# Altium integrated library Altium Database Library V2.IntLib: 721 symbols (part 17 of 35)
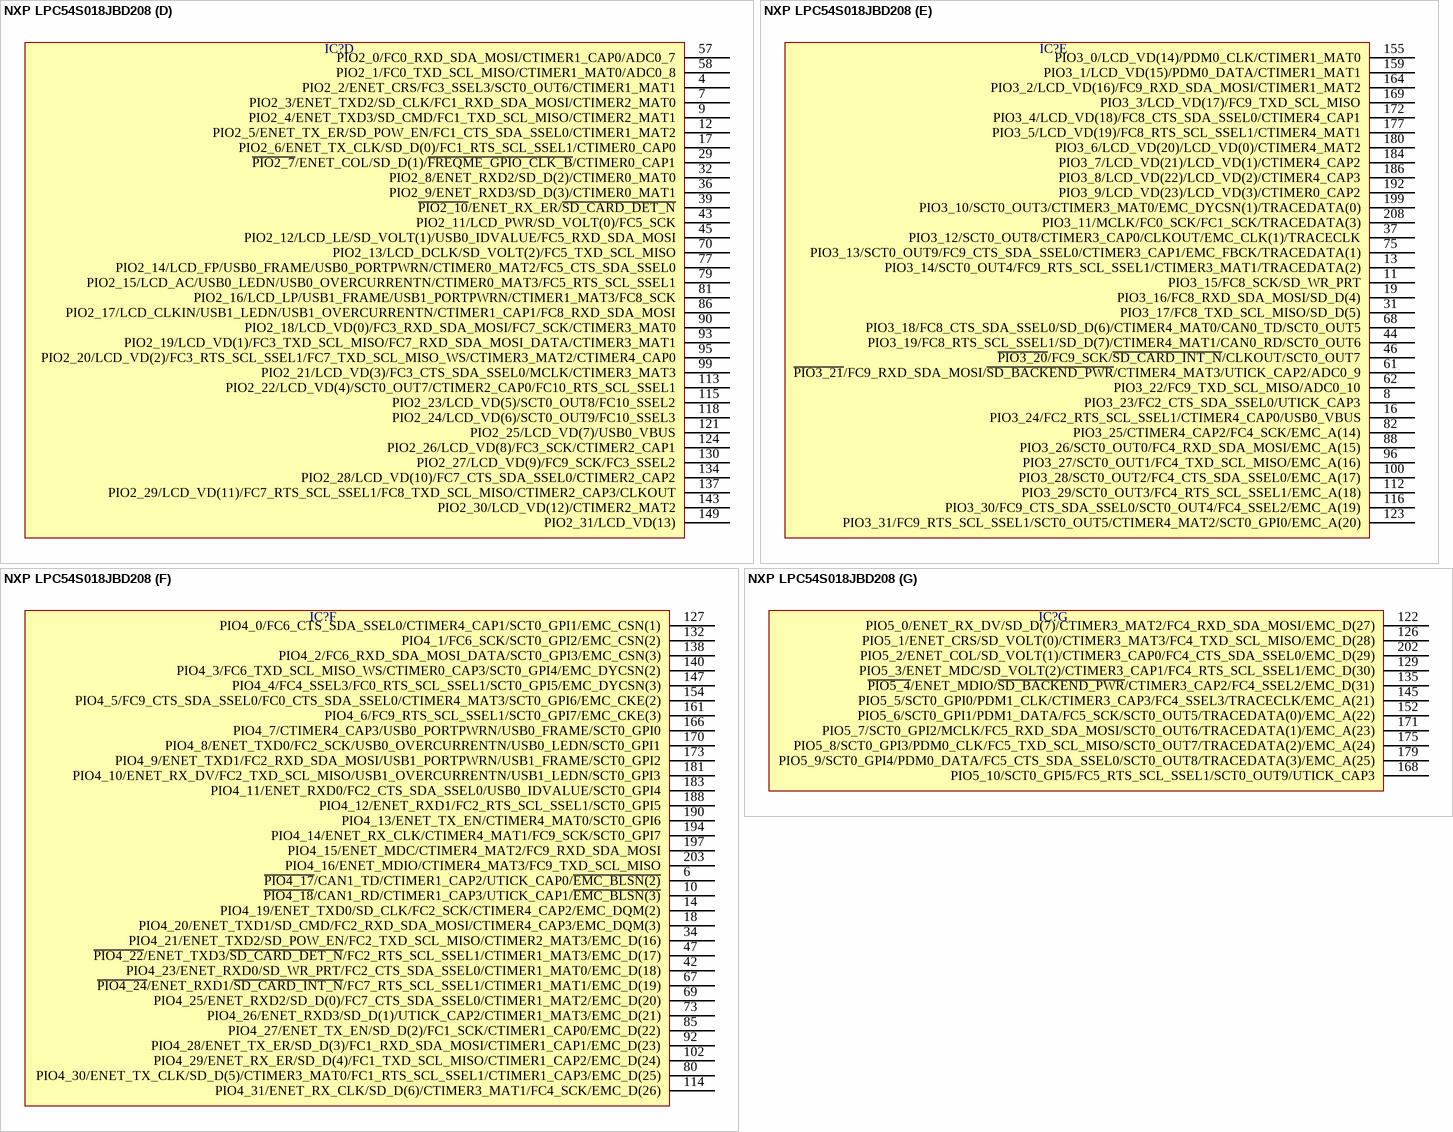
[diagram p730: symbol NXP LPC54S018JBD208]

## NXP LPC54S018JBD208
designator IC?  (value not drawn)
part A pins: 1 VDD1, 2 VSS2, 20 USB1_AVSSC, 21 USB1_REXT, 22 USB1_IDVALUE, 23 USB1_VBUS, 24 USB1_AVDDC3V324, 25 USB1_AVDDTX3V3, 26 USB1_DM, 27 USB1_DP, 28 USB1_AVSSTX3V3, 40 XTAL2, 41 XTAL1, 48 VDD48, 49 VSS49, 59 VREFN, 60 VSSA, 63 VREFP, 64 VDDA, 65 VDD65, 66 VSS66, 94 VBAT94, 101 RESET, 103 VSS103, 104 VDD104, 105 RTCXIN, 106 RTCXOUT, 107 VSS107, 108 VDD108, 148 VSS148, 156 VDD156, 157 VDD157, 162 VSS162, 201 VSS201, 204 USB0_DP, 205 USB0_DM, 206 VDD206
part B pins: 50 PIO0_10/FC6_SCK/CTIMER2_CAP2/CTIMER2_MAT0/FC1_TXD_SCL_MISO/SWO/ADC0_0, 51 PIO0_11/FC6_RXD_SDA_MOSI_DATA/CTIMER2_MAT2/FREQME_GPIO_CLK_A/SWCLK/ADC0_1, 52 ~{PIO0_12}/FC3_TXD_SCL_MISO/~{FREQME_GPIO_CLK_B}/SCT0_GPI7/SWDIO/ADC0_2, 53 PIO0_15/FC6_CTS_SDA_SSEL0/UTICK_CAP2/CTIMER4_CAP0/SCT0_OUT2/EMC_WEN/ENET_TX_EN/ADC0_3, 54 PIO0_16/FC4_TXD_SCL_MISO/CLKOUT/CTIMER1_CAP0/EMC_CSN(0)/ENET_TXD0/ADC0_4, 55 PIO0_31/FC0_CTS_SDA_SSEL0/SD_D(2)/CTIMER0_MAT1/SCT0_OUT3/TRACEDATA(0)/ADC0_5, 71 PIO0_23/MCLK/CTIMER1_MAT2/CTIMER3_MAT3/SCT0_OUT4/FC0_CTS_SDA_SSEL0/SPIFI_CSN/ADC0_11, 76 PIO0_24/FC0_RXD_SDA_MOSI/SD_D(0)/CTIMER2_CAP0/SCT0_GPI0/SPIFI_IO(0), 83 PIO0_25/FC0_TXD_SCL_MISO/SD_D(1)/CTIMER2_CAP1/SCT0_GPI1/SPIFI_IO(1), 87 PIO0_27/FC2_TXD_SCL_MISO/CTIMER3_MAT2/SCT0_OUT6/PDM0_DATA/SPIFI_IO(3), 91 PIO0_28/FC0_SCK/CTIMER2_CAP3/SCT0_OUT7/TRACEDATA(3)/SPIFI_IO(2)/USB0_OVERCURRENTN, 110 PIO0_26/FC2_RXD_SDA_MOSI/CLKOUT/CTIMER3_CAP2/SCT0_OUT5/PDM0_CLK/SPIFI_CLK/USB0_IDVALUE/FC10_CTS_SDA_SSEL0, 125 PIO0_7/FC3_RTS_SCL_SSEL1/SD_CLK/FC5_SCK/FC1_SCK/PDM1_CLK/EMC_D(5)/ENET_RX_CLK, 133 PIO0_8/FC3_SSEL3/SD_CMD/FC5_RXD_SDA_MOSI/SWO/PDM1_DATA/EMC_D(6), 136 PIO0_9/FC3_SSEL2/SD_POW_EN/FC5_TXD_SCL_MISO/SCI1_IO/EMC_D(7), 141 PIO0_13/FC1_CTS_SDA_SSEL0/UTICK_CAP0/CTIMER0_CAP0/SCT0_GPI0/ENET_RXD0, 144 PIO0_14/FC1_RTS_SCL_SSEL1/UTICK_CAP1/CTIMER0_CAP1/SCT0_GPI1/ENET_RXD1, 146 ~{PIO0_17}/FC4_SSEL2/~{SD_CARD_DET_N}/SCT0_GPI7/SCT0_OUT0/EMC_OEN/ENET_TXD1, 150 PIO0_18/FC4_CTS_SDA_SSEL0/SD_WR_PRT/CTIMER1_MAT0/SCT0_OUT1/SCI1_SCLK/EMC_A(0), 153 PIO0_20/FC3_CTS_SDA_SSEL0/CTIMER1_MAT1/CTIMER3_CAP3/SCT0_GPI2/SCI0_IO/EMC_A(2)/FC7_RXD_SDA_MOSI_DATA, 158 PIO0_21/FC3_RTS_SCL_SSEL1/UTICK_CAP3/CTIMER3_MAT3/SCT0_GPI3/SCI0_SCLK/EMC_A(3)/FC7_SCK, 163 PIO0_22/FC6_TXD_SCL_MISO_WS/UTICK_CAP1/CTIMER3_CAP3/SCT0_OUT3/USB0_VBUS, 167 PIO0_29/FC0_RXD_SDA_MOSI/CTIMER2_MAT3/SCT0_OUT8/TRACEDATA(2), 174 PIO0_2/FC3_TXD_SCL_MISO/CTIMER0_CAP1/SCT0_OUT0/SCT0_GPI2/EMC_D(0), 178 PIO0_3/FC3_RXD_SDA_MOSI/CTIMER0_MAT1/SCT0_OUT1/SCT0_GPI3/EMC_D(1), 185 PIO0_4/CAN0_RD/FC4_SCK/CTIMER3_CAP0/SCT0_GPI4/EMC_D(2)/ENET_MDC, 189 PIO0_5/CAN0_TD/FC4_RXD_SDA_MOSI/CTIMER3_MAT0/SCT0_GPI5/EMC_D(3)/ENET_MDIO, 191 PIO0_6/FC3_SCK/CTIMER3_CAP1/CTIMER4_MAT0/SCT0_GPI6/EMC_D(4)/ENET_RX_DV, 193 PIO0_19/FC4_RTS_SCL_SSEL1/UTICK_CAP0/CTIMER0_MAT2/SCT0_OUT2/EMC_A(1)/FC7_TXD_SCL_MISO_WS, 196 PIO0_0/CAN1_RD/FC3_SCK/CTIMER0_MAT0/SCT0_GPI0/PDM0_CLK, 200 PIO0_30/FC0_TXD_SCL_MISO/CTIMER0_MAT0/SCT0_OUT9/TRACEDATA(1), 207 PIO0_1/CAN1_TD/FC3_CTS_SDA_SSEL0/CTIMER0_CAP0/SCT0_GPI1/PDM0_DATA
part C pins: 3 PIO1_4/FC0_SCK/SD_D(0)/CTIMER2_MAT1/SCT0_OUT0/FREQME_GPIO_CLK_A/EMC_D(11), 5 PIO1_5/FC0_RXD_SDA_MOSI/SD_D(2)/CTIMER2_MAT0/SCT0_GPI0/EMC_A(4), 15 ~{PIO1_18}/FC8_TXD_SCL_MISO/SCT0_OUT5/CAN1_RD/~{EMC_BLSN(1)}, 30 PIO1_6/FC0_TXD_SCL_MISO/SD_D(3)/CTIMER2_MAT1/SCT0_GPI3/EMC_A(5), 33 PIO1_19/FC8_SCK/SCT0_OUT7/CTIMER3_MAT1/SCT0_GPI7/FC4_SCK/EMC_D(8), 35 PIO1_20/FC7_RTS_SCL_SSEL1/CTIMER3_CAP2/FC4_TXD_SCL_MISO/EMC_D(9), 38 PIO1_7/FC0_RTS_SCL_SSEL1/SD_D(1)/CTIMER2_MAT2/SCT0_GPI4/EMC_A(6), 56 PIO1_0/FC0_RTS_SCL_SSEL1/SD_D(3)/CTIMER0_CAP2/SCT0_GPI4/TRACECLK/ADC0_6, 72 PIO1_8/FC0_CTS_SDA_SSEL0/SD_CLK/SCT0_OUT1/FC4_SSEL2/EMC_A(7), 74 PIO1_21/FC7_CTS_SDA_SSEL0/CTIMER3_MAT2/FC4_RXD_SDA_MOSI/EMC_D(10), 78 PIO1_9/ENET_TXD0/FC1_SCK/CTIMER1_CAP0/SCT0_OUT2/FC4_CTS_SDA_SSEL0/EMC_CASN, 84 PIO1_10/ENET_TXD1/FC1_RXD_SDA_MOSI/CTIMER1_MAT0/SCT0_OUT3/EMC_RASN, 89 PIO1_22/FC8_RTS_SCL_SSEL1/SD_CMD/CTIMER2_MAT3/SCT0_GPI5/FC4_SSEL3/EMC_CKE(1), 97 PIO1_23/FC2_SCK/SCT0_OUT0/ENET_MDIO/FC3_SSEL2/EMC_A(11), 98 ~{PIO1_17}/ENET_MDIO/FC8_RXD_SDA_MOSI/SCT0_OUT4/CAN1_TD/~{EMC_BLSN(0)}, 109 PIO1_1/FC3_RXD_SDA_MOSI/CTIMER0_CAP3/SCT0_GPI5/FC10_RXD_SDA_MOSI/USB1_OVERCURRENTN, 111 PIO1_24/FC2_RXD_SDA_MOSI/SCT0_OUT1/FC3_SSEL3/EMC_A(12), 117 PIO1_2/CAN0_TD/CTIMER0_MAT3/SCT0_GPI6/PDM1_CLK/FC10_TXD_SCL_MISO/USB1_PORTPWRN, 119 PIO1_25/FC2_TXD_SCL_MISO/SCT0_OUT2/UTICK_CAP0/EMC_A(13), 120 PIO1_3/CAN0_RD/SCT0_OUT4/PDM1_DATA/USB0_PORTPWRN/FC10_SCK, 128 PIO1_12/ENET_RXD0/FC6_SCK/CTIMER1_MAT1/USB0_PORTPWRN/EMC_DYCSN(0), 131 PIO1_26/FC2_CTS_SDA_SSEL0/SCT0_OUT3/CTIMER0_CAP3/UTICK_CAP1/EMC_A(8), 139 PIO1_13/ENET_RXD1/FC6_RXD_SDA_MOSI_DATA/CTIMER1_CAP2/USB0_OVERCURRENTN/USB0_FRAME/EMC_DQM(0), 142 PIO1_27/FC2_RTS_SCL_SSEL1/SD_D(4)/CTIMER0_MAT3/CLKOUT/EMC_A(9), 151 PIO1_28/FC7_SCK/SD_D(5)/CTIMER0_CAP2/EMC_D(12), 160 PIO1_14/ENET_RX_DV/UTICK_CAP2/CTIMER1_MAT2/FC5_CTS_SDA_SSEL0/USB0_LEDN/EMC_DQM(1), 165 PIO1_29/FC7_RXD_SDA_MOSI_DATA/SD_D(6)/SCT0_GPI6/USB1_PORTPWRN/USB1_FRAME/EMC_D(13), 176 PIO1_15/ENET_RX_CLK/UTICK_CAP3/CTIMER1_CAP3/FC5_RTS_SCL_SSEL1/FC4_RTS_SCL_SSEL1/EMC_CKE(0), 182 PIO1_30/FC7_TXD_SCL_MISO_WS/SD_D(7)/SCT0_GPI7/USB1_OVERCURRENTN/USB1_LEDN/EMC_D(14), 187 PIO1_16/ENET_MDC/FC6_TXD_SCL_MISO_WS/CTIMER1_MAT3/SD_CMD/EMC_A(10), 195 PIO1_31/MCLK/CTIMER0_MAT2/SCT0_OUT6/FC8_CTS_SDA_SSEL0/EMC_D(15), 198 PIO1_11/ENET_TX_EN/FC1_TXD_SCL_MISO/CTIMER1_CAP1/USB0_VBUS/EMC_CLK(0)
part D pins: 4 PIO2_2/ENET_CRS/FC3_SSEL3/SCT0_OUT6/CTIMER1_MAT1, 7 PIO2_3/ENET_TXD2/SD_CLK/FC1_RXD_SDA_MOSI/CTIMER2_MAT0, 9 PIO2_4/ENET_TXD3/SD_CMD/FC1_TXD_SCL_MISO/CTIMER2_MAT1, 12 PIO2_5/ENET_TX_ER/SD_POW_EN/FC1_CTS_SDA_SSEL0/CTIMER1_MAT2, 17 PIO2_6/ENET_TX_CLK/SD_D(0)/FC1_RTS_SCL_SSEL1/CTIMER0_CAP0, 29 ~{PIO2_7}/ENET_COL/SD_D(1)/~{FREQME_GPIO_CLK_B}/CTIMER0_CAP1, 32 PIO2_8/ENET_RXD2/SD_D(2)/CTIMER0_MAT0, 36 PIO2_9/ENET_RXD3/SD_D(3)/CTIMER0_MAT1, 39 ~{PIO2_10}/ENET_RX_ER/~{SD_CARD_DET_N}, 43 PIO2_11/LCD_PWR/SD_VOLT(0)/FC5_SCK, 45 PIO2_12/LCD_LE/SD_VOLT(1)/USB0_IDVALUE/FC5_RXD_SDA_MOSI, 57 PIO2_0/FC0_RXD_SDA_MOSI/CTIMER1_CAP0/ADC0_7, 58 PIO2_1/FC0_TXD_SCL_MISO/CTIMER1_MAT0/ADC0_8, 70 PIO2_13/LCD_DCLK/SD_VOLT(2)/FC5_TXD_SCL_MISO, 77 PIO2_14/LCD_FP/USB0_FRAME/USB0_PORTPWRN/CTIMER0_MAT2/FC5_CTS_SDA_SSEL0, 79 PIO2_15/LCD_AC/USB0_LEDN/USB0_OVERCURRENTN/CTIMER0_MAT3/FC5_RTS_SCL_SSEL1, 81 PIO2_16/LCD_LP/USB1_FRAME/USB1_PORTPWRN/CTIMER1_MAT3/FC8_SCK, 86 PIO2_17/LCD_CLKIN/USB1_LEDN/USB1_OVERCURRENTN/CTIMER1_CAP1/FC8_RXD_SDA_MOSI, 90 PIO2_18/LCD_VD(0)/FC3_RXD_SDA_MOSI/FC7_SCK/CTIMER3_MAT0, 93 PIO2_19/LCD_VD(1)/FC3_TXD_SCL_MISO/FC7_RXD_SDA_MOSI_DATA/CTIMER3_MAT1, 95 PIO2_20/LCD_VD(2)/FC3_RTS_SCL_SSEL1/FC7_TXD_SCL_MISO_WS/CTIMER3_MAT2/CTIMER4_CAP0, 99 PIO2_21/LCD_VD(3)/FC3_CTS_SDA_SSEL0/MCLK/CTIMER3_MAT3, 113 PIO2_22/LCD_VD(4)/SCT0_OUT7/CTIMER2_CAP0/FC10_RTS_SCL_SSEL1, 115 PIO2_23/LCD_VD(5)/SCT0_OUT8/FC10_SSEL2, 118 PIO2_24/LCD_VD(6)/SCT0_OUT9/FC10_SSEL3, 121 PIO2_25/LCD_VD(7)/USB0_VBUS, 124 PIO2_26/LCD_VD(8)/FC3_SCK/CTIMER2_CAP1, 130 PIO2_27/LCD_VD(9)/FC9_SCK/FC3_SSEL2, 134 PIO2_28/LCD_VD(10)/FC7_CTS_SDA_SSEL0/CTIMER2_CAP2, 137 PIO2_29/LCD_VD(11)/FC7_RTS_SCL_SSEL1/FC8_TXD_SCL_MISO/CTIMER2_CAP3/CLKOUT, 143 PIO2_30/LCD_VD(12)/CTIMER2_MAT2, 149 PIO2_31/LCD_VD(13)
part E pins: 8 PIO3_23/FC2_CTS_SDA_SSEL0/UTICK_CAP3, 11 PIO3_15/FC8_SCK/SD_WR_PRT, 13 PIO3_14/SCT0_OUT4/FC9_RTS_SCL_SSEL1/CTIMER3_MAT1/TRACEDATA(2), 16 PIO3_24/FC2_RTS_SCL_SSEL1/CTIMER4_CAP0/USB0_VBUS, 19 PIO3_16/FC8_RXD_SDA_MOSI/SD_D(4), 31 PIO3_17/FC8_TXD_SCL_MISO/SD_D(5), 37 PIO3_12/SCT0_OUT8/CTIMER3_CAP0/CLKOUT/EMC_CLK(1)/TRACECLK, 44 PIO3_19/FC8_RTS_SCL_SSEL1/SD_D(7)/CTIMER4_MAT1/CAN0_RD/SCT0_OUT6, 46 ~{PIO3_20}/FC9_SCK/~{SD_CARD_INT_N}/CLKOUT/SCT0_OUT7, 61 ~{PIO3_21}/FC9_RXD_SDA_MOSI/~{SD_BACKEND_PWR}/CTIMER4_MAT3/UTICK_CAP2/ADC0_9, 62 PIO3_22/FC9_TXD_SCL_MISO/ADC0_10, 68 PIO3_18/FC8_CTS_SDA_SSEL0/SD_D(6)/CTIMER4_MAT0/CAN0_TD/SCT0_OUT5, 75 PIO3_13/SCT0_OUT9/FC9_CTS_SDA_SSEL0/CTIMER3_CAP1/EMC_FBCK/TRACEDATA(1), 82 PIO3_25/CTIMER4_CAP2/FC4_SCK/EMC_A(14), 88 PIO3_26/SCT0_OUT0/FC4_RXD_SDA_MOSI/EMC_A(15), 96 PIO3_27/SCT0_OUT1/FC4_TXD_SCL_MISO/EMC_A(16), 100 PIO3_28/SCT0_OUT2/FC4_CTS_SDA_SSEL0/EMC_A(17), 112 PIO3_29/SCT0_OUT3/FC4_RTS_SCL_SSEL1/EMC_A(18), 116 PIO3_30/FC9_CTS_SDA_SSEL0/SCT0_OUT4/FC4_SSEL2/EMC_A(19), 123 PIO3_31/FC9_RTS_SCL_SSEL1/SCT0_OUT5/CTIMER4_MAT2/SCT0_GPI0/EMC_A(20), 155 PIO3_0/LCD_VD(14)/PDM0_CLK/CTIMER1_MAT0, 159 PIO3_1/LCD_VD(15)/PDM0_DATA/CTIMER1_MAT1, 164 PIO3_2/LCD_VD(16)/FC9_RXD_SDA_MOSI/CTIMER1_MAT2, 169 PIO3_3/LCD_VD(17)/FC9_TXD_SCL_MISO, 172 PIO3_4/LCD_VD(18)/FC8_CTS_SDA_SSEL0/CTIMER4_CAP1, 177 PIO3_5/LCD_VD(19)/FC8_RTS_SCL_SSEL1/CTIMER4_MAT1, 180 PIO3_6/LCD_VD(20)/LCD_VD(0)/CTIMER4_MAT2, 184 PIO3_7/LCD_VD(21)/LCD_VD(1)/CTIMER4_CAP2, 186 PIO3_8/LCD_VD(22)/LCD_VD(2)/CTIMER4_CAP3, 192 PIO3_9/LCD_VD(23)/LCD_VD(3)/CTIMER0_CAP2, 199 PIO3_10/SCT0_OUT3/CTIMER3_MAT0/EMC_DYCSN(1)/TRACEDATA(0), 208 PIO3_11/MCLK/FC0_SCK/FC1_SCK/TRACEDATA(3)
part F pins: 6 ~{PIO4_17}/CAN1_TD/CTIMER1_CAP2/UTICK_CAP0/~{EMC_BLSN(2)}, 10 ~{PIO4_18}/CAN1_RD/CTIMER1_CAP3/UTICK_CAP1/~{EMC_BLSN(3)}, 14 PIO4_19/ENET_TXD0/SD_CLK/FC2_SCK/CTIMER4_CAP2/EMC_DQM(2), 18 PIO4_20/ENET_TXD1/SD_CMD/FC2_RXD_SDA_MOSI/CTIMER4_CAP3/EMC_DQM(3), 34 PIO4_21/ENET_TXD2/SD_POW_EN/FC2_TXD_SCL_MISO/CTIMER2_MAT3/EMC_D(16), 42 PIO4_23/ENET_RXD0/SD_WR_PRT/FC2_CTS_SDA_SSEL0/CTIMER1_MAT0/EMC_D(18), 47 ~{PIO4_22}/ENET_TXD3/~{SD_CARD_DET_N}/FC2_RTS_SCL_SSEL1/CTIMER1_MAT3/EMC_D(17), 67 ~{PIO4_24}/ENET_RXD1/~{SD_CARD_INT_N}/FC7_RTS_SCL_SSEL1/CTIMER1_MAT1/EMC_D(19), 69 PIO4_25/ENET_RXD2/SD_D(0)/FC7_CTS_SDA_SSEL0/CTIMER1_MAT2/EMC_D(20), 73 PIO4_26/ENET_RXD3/SD_D(1)/UTICK_CAP2/CTIMER1_MAT3/EMC_D(21), 80 PIO4_30/ENET_TX_CLK/SD_D(5)/CTIMER3_MAT0/FC1_RTS_SCL_SSEL1/CTIMER1_CAP3/EMC_D(25), 85 PIO4_27/ENET_TX_EN/SD_D(2)/FC1_SCK/CTIMER1_CAP0/EMC_D(22), 92 PIO4_28/ENET_TX_ER/SD_D(3)/FC1_RXD_SDA_MOSI/CTIMER1_CAP1/EMC_D(23), 102 PIO4_29/ENET_RX_ER/SD_D(4)/FC1_TXD_SCL_MISO/CTIMER1_CAP2/EMC_D(24), 114 PIO4_31/ENET_RX_CLK/SD_D(6)/CTIMER3_MAT1/FC4_SCK/EMC_D(26), 127 PIO4_0/FC6_CTS_SDA_SSEL0/CTIMER4_CAP1/SCT0_GPI1/EMC_CSN(1), 132 PIO4_1/FC6_SCK/SCT0_GPI2/EMC_CSN(2), 138 PIO4_2/FC6_RXD_SDA_MOSI_DATA/SCT0_GPI3/EMC_CSN(3), 140 PIO4_3/FC6_TXD_SCL_MISO_WS/CTIMER0_CAP3/SCT0_GPI4/EMC_DYCSN(2), 147 PIO4_4/FC4_SSEL3/FC0_RTS_SCL_SSEL1/SCT0_GPI5/EMC_DYCSN(3), 154 PIO4_5/FC9_CTS_SDA_SSEL0/FC0_CTS_SDA_SSEL0/CTIMER4_MAT3/SCT0_GPI6/EMC_CKE(2), 161 PIO4_6/FC9_RTS_SCL_SSEL1/SCT0_GPI7/EMC_CKE(3), 166 PIO4_7/CTIMER4_CAP3/USB0_PORTPWRN/USB0_FRAME/SCT0_GPI0, 170 PIO4_8/ENET_TXD0/FC2_SCK/USB0_OVERCURRENTN/USB0_LEDN/SCT0_GPI1, 173 PIO4_9/ENET_TXD1/FC2_RXD_SDA_MOSI/USB1_PORTPWRN/USB1_FRAME/SCT0_GPI2, 181 PIO4_10/ENET_RX_DV/FC2_TXD_SCL_MISO/USB1_OVERCURRENTN/USB1_LEDN/SCT0_GPI3, 183 PIO4_11/ENET_RXD0/FC2_CTS_SDA_SSEL0/USB0_IDVALUE/SCT0_GPI4, 188 PIO4_12/ENET_RXD1/FC2_RTS_SCL_SSEL1/SCT0_GPI5, 190 PIO4_13/ENET_TX_EN/CTIMER4_MAT0/SCT0_GPI6, 194 PIO4_14/ENET_RX_CLK/CTIMER4_MAT1/FC9_SCK/SCT0_GPI7, 197 PIO4_15/ENET_MDC/CTIMER4_MAT2/FC9_RXD_SDA_MOSI, 203 PIO4_16/ENET_MDIO/CTIMER4_MAT3/FC9_TXD_SCL_MISO
part G pins: 122 PIO5_0/ENET_RX_DV/SD_D(7)/CTIMER3_MAT2/FC4_RXD_SDA_MOSI/EMC_D(27), 126 PIO5_1/ENET_CRS/SD_VOLT(0)/CTIMER3_MAT3/FC4_TXD_SCL_MISO/EMC_D(28), 129 PIO5_3/ENET_MDC/SD_VOLT(2)/CTIMER3_CAP1/FC4_RTS_SCL_SSEL1/EMC_D(30), 135 ~{PIO5_4}/ENET_MDIO/~{SD_BACKEND_PWR}/CTIMER3_CAP2/FC4_SSEL2/EMC_D(31), 145 PIO5_5/SCT0_GPI0/PDM1_CLK/CTIMER3_CAP3/FC4_SSEL3/TRACECLK/EMC_A(21), 152 PIO5_6/SCT0_GPI1/PDM1_DATA/FC5_SCK/SCT0_OUT5/TRACEDATA(0)/EMC_A(22), 168 PIO5_10/SCT0_GPI5/FC5_RTS_SCL_SSEL1/SCT0_OUT9/UTICK_CAP3, 171 PIO5_7/SCT0_GPI2/MCLK/FC5_RXD_SDA_MOSI/SCT0_OUT6/TRACEDATA(1)/EMC_A(23), 175 PIO5_8/SCT0_GPI3/PDM0_CLK/FC5_TXD_SCL_MISO/SCT0_OUT7/TRACEDATA(2)/EMC_A(24), 179 PIO5_9/SCT0_GPI4/PDM0_DATA/FC5_CTS_SDA_SSEL0/SCT0_OUT8/TRACEDATA(3)/EMC_A(25), 202 PIO5_2/ENET_COL/SD_VOLT(1)/CTIMER3_CAP0/FC4_CTS_SDA_SSEL0/EMC_D(29)


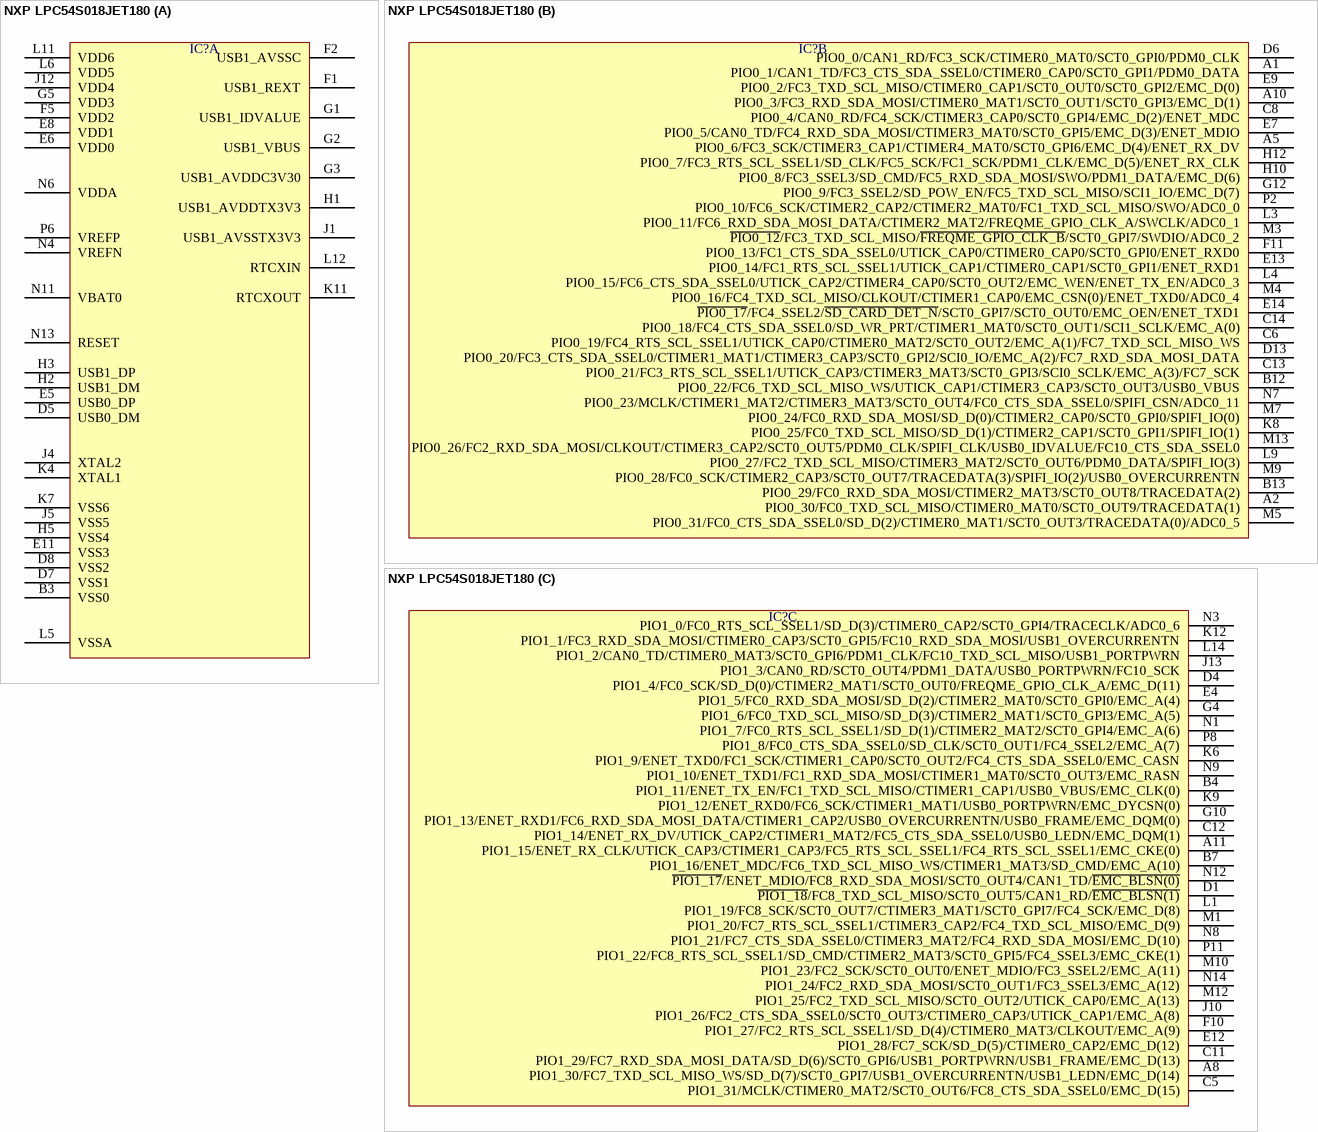
[diagram p348: symbol NXP LPC54S018JET180]

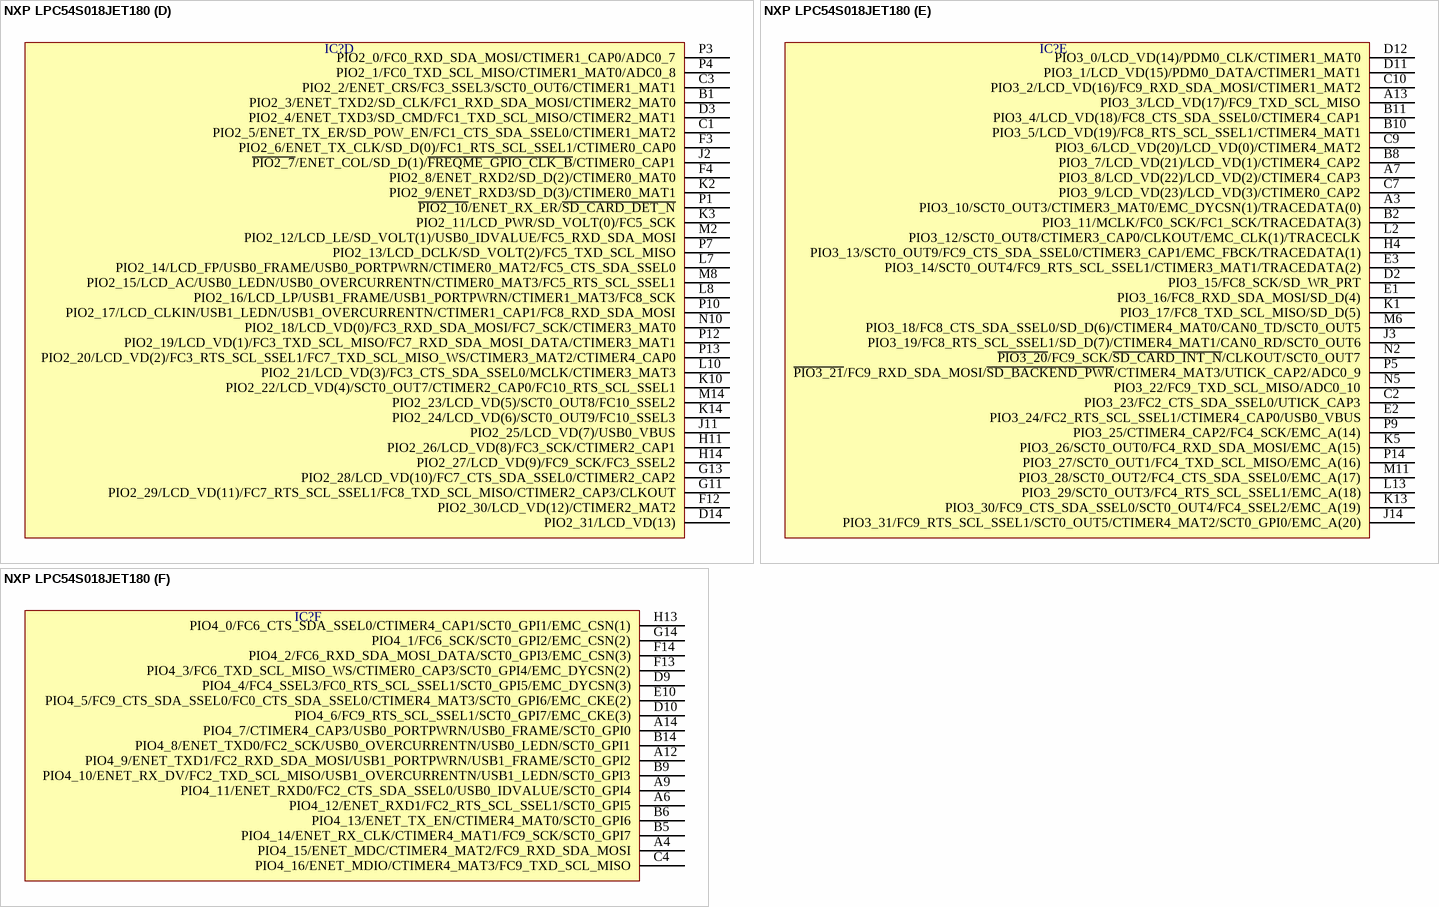
[diagram p349: symbol NXP LPC54S018JET180]

## NXP LPC54S018JET180
designator IC?  (value not drawn)
part A pins: B3 VSS0, D5 USB0_DM, D7 VSS1, D8 VSS2, E5 USB0_DP, E6 VDD0, E8 VDD1, E11 VSS3, F1 USB1_REXT, F2 USB1_AVSSC, F5 VDD2, G1 USB1_IDVALUE, G2 USB1_VBUS, G3 USB1_AVDDC3V30, G5 VDD3, H1 USB1_AVDDTX3V3, H2 USB1_DM, H3 USB1_DP, H5 VSS4, J1 USB1_AVSSTX3V3, J4 XTAL2, J5 VSS5, J12 VDD4, K4 XTAL1, K7 VSS6, K11 RTCXOUT, L5 VSSA, L6 VDD5, L11 VDD6, L12 RTCXIN, N4 VREFN, N6 VDDA, N11 VBAT0, N13 RESET, P6 VREFP
part B pins: A1 PIO0_1/CAN1_TD/FC3_CTS_SDA_SSEL0/CTIMER0_CAP0/SCT0_GPI1/PDM0_DATA, A2 PIO0_30/FC0_TXD_SCL_MISO/CTIMER0_MAT0/SCT0_OUT9/TRACEDATA(1), A5 PIO0_6/FC3_SCK/CTIMER3_CAP1/CTIMER4_MAT0/SCT0_GPI6/EMC_D(4)/ENET_RX_DV, A10 PIO0_3/FC3_RXD_SDA_MOSI/CTIMER0_MAT1/SCT0_OUT1/SCT0_GPI3/EMC_D(1), B12 PIO0_22/FC6_TXD_SCL_MISO_WS/UTICK_CAP1/CTIMER3_CAP3/SCT0_OUT3/USB0_VBUS, B13 PIO0_29/FC0_RXD_SDA_MOSI/CTIMER2_MAT3/SCT0_OUT8/TRACEDATA(2), C6 PIO0_19/FC4_RTS_SCL_SSEL1/UTICK_CAP0/CTIMER0_MAT2/SCT0_OUT2/EMC_A(1)/FC7_TXD_SCL_MISO_WS, C8 PIO0_4/CAN0_RD/FC4_SCK/CTIMER3_CAP0/SCT0_GPI4/EMC_D(2)/ENET_MDC, C13 PIO0_21/FC3_RTS_SCL_SSEL1/UTICK_CAP3/CTIMER3_MAT3/SCT0_GPI3/SCI0_SCLK/EMC_A(3)/FC7_SCK, C14 PIO0_18/FC4_CTS_SDA_SSEL0/SD_WR_PRT/CTIMER1_MAT0/SCT0_OUT1/SCI1_SCLK/EMC_A(0), D6 PIO0_0/CAN1_RD/FC3_SCK/CTIMER0_MAT0/SCT0_GPI0/PDM0_CLK, D13 PIO0_20/FC3_CTS_SDA_SSEL0/CTIMER1_MAT1/CTIMER3_CAP3/SCT0_GPI2/SCI0_IO/EMC_A(2)/FC7_RXD_SDA_MOSI_DATA, E7 PIO0_5/CAN0_TD/FC4_RXD_SDA_MOSI/CTIMER3_MAT0/SCT0_GPI5/EMC_D(3)/ENET_MDIO, E9 PIO0_2/FC3_TXD_SCL_MISO/CTIMER0_CAP1/SCT0_OUT0/SCT0_GPI2/EMC_D(0), E13 PIO0_14/FC1_RTS_SCL_SSEL1/UTICK_CAP1/CTIMER0_CAP1/SCT0_GPI1/ENET_RXD1, E14 ~{PIO0_17}/FC4_SSEL2/~{SD_CARD_DET_N}/SCT0_GPI7/SCT0_OUT0/EMC_OEN/ENET_TXD1, F11 PIO0_13/FC1_CTS_SDA_SSEL0/UTICK_CAP0/CTIMER0_CAP0/SCT0_GPI0/ENET_RXD0, G12 PIO0_9/FC3_SSEL2/SD_POW_EN/FC5_TXD_SCL_MISO/SCI1_IO/EMC_D(7), H10 PIO0_8/FC3_SSEL3/SD_CMD/FC5_RXD_SDA_MOSI/SWO/PDM1_DATA/EMC_D(6), H12 PIO0_7/FC3_RTS_SCL_SSEL1/SD_CLK/FC5_SCK/FC1_SCK/PDM1_CLK/EMC_D(5)/ENET_RX_CLK, K8 PIO0_25/FC0_TXD_SCL_MISO/SD_D(1)/CTIMER2_CAP1/SCT0_GPI1/SPIFI_IO(1), L3 PIO0_11/FC6_RXD_SDA_MOSI_DATA/CTIMER2_MAT2/FREQME_GPIO_CLK_A/SWCLK/ADC0_1, L4 PIO0_15/FC6_CTS_SDA_SSEL0/UTICK_CAP2/CTIMER4_CAP0/SCT0_OUT2/EMC_WEN/ENET_TX_EN/ADC0_3, L9 PIO0_27/FC2_TXD_SCL_MISO/CTIMER3_MAT2/SCT0_OUT6/PDM0_DATA/SPIFI_IO(3), M3 ~{PIO0_12}/FC3_TXD_SCL_MISO/~{FREQME_GPIO_CLK_B}/SCT0_GPI7/SWDIO/ADC0_2, M4 PIO0_16/FC4_TXD_SCL_MISO/CLKOUT/CTIMER1_CAP0/EMC_CSN(0)/ENET_TXD0/ADC0_4, M5 PIO0_31/FC0_CTS_SDA_SSEL0/SD_D(2)/CTIMER0_MAT1/SCT0_OUT3/TRACEDATA(0)/ADC0_5, M7 PIO0_24/FC0_RXD_SDA_MOSI/SD_D(0)/CTIMER2_CAP0/SCT0_GPI0/SPIFI_IO(0), M9 PIO0_28/FC0_SCK/CTIMER2_CAP3/SCT0_OUT7/TRACEDATA(3)/SPIFI_IO(2)/USB0_OVERCURRENTN, M13 PIO0_26/FC2_RXD_SDA_MOSI/CLKOUT/CTIMER3_CAP2/SCT0_OUT5/PDM0_CLK/SPIFI_CLK/USB0_IDVALUE/FC10_CTS_SDA_SSEL0, N7 PIO0_23/MCLK/CTIMER1_MAT2/CTIMER3_MAT3/SCT0_OUT4/FC0_CTS_SDA_SSEL0/SPIFI_CSN/ADC0_11, P2 PIO0_10/FC6_SCK/CTIMER2_CAP2/CTIMER2_MAT0/FC1_TXD_SCL_MISO/SWO/ADC0_0
part C pins: A8 PIO1_30/FC7_TXD_SCL_MISO_WS/SD_D(7)/SCT0_GPI7/USB1_OVERCURRENTN/USB1_LEDN/EMC_D(14), A11 PIO1_15/ENET_RX_CLK/UTICK_CAP3/CTIMER1_CAP3/FC5_RTS_SCL_SSEL1/FC4_RTS_SCL_SSEL1/EMC_CKE(0), B4 PIO1_11/ENET_TX_EN/FC1_TXD_SCL_MISO/CTIMER1_CAP1/USB0_VBUS/EMC_CLK(0), B7 PIO1_16/ENET_MDC/FC6_TXD_SCL_MISO_WS/CTIMER1_MAT3/SD_CMD/EMC_A(10), C5 PIO1_31/MCLK/CTIMER0_MAT2/SCT0_OUT6/FC8_CTS_SDA_SSEL0/EMC_D(15), C11 PIO1_29/FC7_RXD_SDA_MOSI_DATA/SD_D(6)/SCT0_GPI6/USB1_PORTPWRN/USB1_FRAME/EMC_D(13), C12 PIO1_14/ENET_RX_DV/UTICK_CAP2/CTIMER1_MAT2/FC5_CTS_SDA_SSEL0/USB0_LEDN/EMC_DQM(1), D1 ~{PIO1_18}/FC8_TXD_SCL_MISO/SCT0_OUT5/CAN1_RD/~{EMC_BLSN(1)}, D4 PIO1_4/FC0_SCK/SD_D(0)/CTIMER2_MAT1/SCT0_OUT0/FREQME_GPIO_CLK_A/EMC_D(11), E4 PIO1_5/FC0_RXD_SDA_MOSI/SD_D(2)/CTIMER2_MAT0/SCT0_GPI0/EMC_A(4), E12 PIO1_28/FC7_SCK/SD_D(5)/CTIMER0_CAP2/EMC_D(12), F10 PIO1_27/FC2_RTS_SCL_SSEL1/SD_D(4)/CTIMER0_MAT3/CLKOUT/EMC_A(9), G4 PIO1_6/FC0_TXD_SCL_MISO/SD_D(3)/CTIMER2_MAT1/SCT0_GPI3/EMC_A(5), G10 PIO1_13/ENET_RXD1/FC6_RXD_SDA_MOSI_DATA/CTIMER1_CAP2/USB0_OVERCURRENTN/USB0_FRAME/EMC_DQM(0), J10 PIO1_26/FC2_CTS_SDA_SSEL0/SCT0_OUT3/CTIMER0_CAP3/UTICK_CAP1/EMC_A(8), J13 PIO1_3/CAN0_RD/SCT0_OUT4/PDM1_DATA/USB0_PORTPWRN/FC10_SCK, K6 PIO1_9/ENET_TXD0/FC1_SCK/CTIMER1_CAP0/SCT0_OUT2/FC4_CTS_SDA_SSEL0/EMC_CASN, K9 PIO1_12/ENET_RXD0/FC6_SCK/CTIMER1_MAT1/USB0_PORTPWRN/EMC_DYCSN(0), K12 PIO1_1/FC3_RXD_SDA_MOSI/CTIMER0_CAP3/SCT0_GPI5/FC10_RXD_SDA_MOSI/USB1_OVERCURRENTN, L1 PIO1_19/FC8_SCK/SCT0_OUT7/CTIMER3_MAT1/SCT0_GPI7/FC4_SCK/EMC_D(8), L14 PIO1_2/CAN0_TD/CTIMER0_MAT3/SCT0_GPI6/PDM1_CLK/FC10_TXD_SCL_MISO/USB1_PORTPWRN, M1 PIO1_20/FC7_RTS_SCL_SSEL1/CTIMER3_CAP2/FC4_TXD_SCL_MISO/EMC_D(9), M10 PIO1_23/FC2_SCK/SCT0_OUT0/ENET_MDIO/FC3_SSEL2/EMC_A(11), M12 PIO1_25/FC2_TXD_SCL_MISO/SCT0_OUT2/UTICK_CAP0/EMC_A(13), N1 PIO1_7/FC0_RTS_SCL_SSEL1/SD_D(1)/CTIMER2_MAT2/SCT0_GPI4/EMC_A(6), N3 PIO1_0/FC0_RTS_SCL_SSEL1/SD_D(3)/CTIMER0_CAP2/SCT0_GPI4/TRACECLK/ADC0_6, N8 PIO1_21/FC7_CTS_SDA_SSEL0/CTIMER3_MAT2/FC4_RXD_SDA_MOSI/EMC_D(10), N9 PIO1_10/ENET_TXD1/FC1_RXD_SDA_MOSI/CTIMER1_MAT0/SCT0_OUT3/EMC_RASN, N12 ~{PIO1_17}/ENET_MDIO/FC8_RXD_SDA_MOSI/SCT0_OUT4/CAN1_TD/~{EMC_BLSN(0)}, N14 PIO1_24/FC2_RXD_SDA_MOSI/SCT0_OUT1/FC3_SSEL3/EMC_A(12), P8 PIO1_8/FC0_CTS_SDA_SSEL0/SD_CLK/SCT0_OUT1/FC4_SSEL2/EMC_A(7), P11 PIO1_22/FC8_RTS_SCL_SSEL1/SD_CMD/CTIMER2_MAT3/SCT0_GPI5/FC4_SSEL3/EMC_CKE(1)
part D pins: B1 PIO2_3/ENET_TXD2/SD_CLK/FC1_RXD_SDA_MOSI/CTIMER2_MAT0, C1 PIO2_5/ENET_TX_ER/SD_POW_EN/FC1_CTS_SDA_SSEL0/CTIMER1_MAT2, C3 PIO2_2/ENET_CRS/FC3_SSEL3/SCT0_OUT6/CTIMER1_MAT1, D3 PIO2_4/ENET_TXD3/SD_CMD/FC1_TXD_SCL_MISO/CTIMER2_MAT1, D14 PIO2_31/LCD_VD(13), F3 PIO2_6/ENET_TX_CLK/SD_D(0)/FC1_RTS_SCL_SSEL1/CTIMER0_CAP0, F4 PIO2_8/ENET_RXD2/SD_D(2)/CTIMER0_MAT0, F12 PIO2_30/LCD_VD(12)/CTIMER2_MAT2, G11 PIO2_29/LCD_VD(11)/FC7_RTS_SCL_SSEL1/FC8_TXD_SCL_MISO/CTIMER2_CAP3/CLKOUT, G13 PIO2_28/LCD_VD(10)/FC7_CTS_SDA_SSEL0/CTIMER2_CAP2, H11 PIO2_26/LCD_VD(8)/FC3_SCK/CTIMER2_CAP1, H14 PIO2_27/LCD_VD(9)/FC9_SCK/FC3_SSEL2, J2 ~{PIO2_7}/ENET_COL/SD_D(1)/~{FREQME_GPIO_CLK_B}/CTIMER0_CAP1, J11 PIO2_25/LCD_VD(7)/USB0_VBUS, K2 PIO2_9/ENET_RXD3/SD_D(3)/CTIMER0_MAT1, K3 PIO2_11/LCD_PWR/SD_VOLT(0)/FC5_SCK, K10 PIO2_22/LCD_VD(4)/SCT0_OUT7/CTIMER2_CAP0/FC10_RTS_SCL_SSEL1, K14 PIO2_24/LCD_VD(6)/SCT0_OUT9/FC10_SSEL3, L7 PIO2_14/LCD_FP/USB0_FRAME/USB0_PORTPWRN/CTIMER0_MAT2/FC5_CTS_SDA_SSEL0, L8 PIO2_16/LCD_LP/USB1_FRAME/USB1_PORTPWRN/CTIMER1_MAT3/FC8_SCK, L10 PIO2_21/LCD_VD(3)/FC3_CTS_SDA_SSEL0/MCLK/CTIMER3_MAT3, M2 PIO2_12/LCD_LE/SD_VOLT(1)/USB0_IDVALUE/FC5_RXD_SDA_MOSI, M8 PIO2_15/LCD_AC/USB0_LEDN/USB0_OVERCURRENTN/CTIMER0_MAT3/FC5_RTS_SCL_SSEL1, M14 PIO2_23/LCD_VD(5)/SCT0_OUT8/FC10_SSEL2, N10 PIO2_18/LCD_VD(0)/FC3_RXD_SDA_MOSI/FC7_SCK/CTIMER3_MAT0, P1 ~{PIO2_10}/ENET_RX_ER/~{SD_CARD_DET_N}, P3 PIO2_0/FC0_RXD_SDA_MOSI/CTIMER1_CAP0/ADC0_7, P4 PIO2_1/FC0_TXD_SCL_MISO/CTIMER1_MAT0/ADC0_8, P7 PIO2_13/LCD_DCLK/SD_VOLT(2)/FC5_TXD_SCL_MISO, P10 PIO2_17/LCD_CLKIN/USB1_LEDN/USB1_OVERCURRENTN/CTIMER1_CAP1/FC8_RXD_SDA_MOSI, P12 PIO2_19/LCD_VD(1)/FC3_TXD_SCL_MISO/FC7_RXD_SDA_MOSI_DATA/CTIMER3_MAT1, P13 PIO2_20/LCD_VD(2)/FC3_RTS_SCL_SSEL1/FC7_TXD_SCL_MISO_WS/CTIMER3_MAT2/CTIMER4_CAP0
part E pins: A3 PIO3_10/SCT0_OUT3/CTIMER3_MAT0/EMC_DYCSN(1)/TRACEDATA(0), A7 PIO3_8/LCD_VD(22)/LCD_VD(2)/CTIMER4_CAP3, A13 PIO3_3/LCD_VD(17)/FC9_TXD_SCL_MISO, B2 PIO3_11/MCLK/FC0_SCK/FC1_SCK/TRACEDATA(3), B8 PIO3_7/LCD_VD(21)/LCD_VD(1)/CTIMER4_CAP2, B10 PIO3_5/LCD_VD(19)/FC8_RTS_SCL_SSEL1/CTIMER4_MAT1, B11 PIO3_4/LCD_VD(18)/FC8_CTS_SDA_SSEL0/CTIMER4_CAP1, C2 PIO3_23/FC2_CTS_SDA_SSEL0/UTICK_CAP3, C7 PIO3_9/LCD_VD(23)/LCD_VD(3)/CTIMER0_CAP2, C9 PIO3_6/LCD_VD(20)/LCD_VD(0)/CTIMER4_MAT2, C10 PIO3_2/LCD_VD(16)/FC9_RXD_SDA_MOSI/CTIMER1_MAT2, D2 PIO3_15/FC8_SCK/SD_WR_PRT, D11 PIO3_1/LCD_VD(15)/PDM0_DATA/CTIMER1_MAT1, D12 PIO3_0/LCD_VD(14)/PDM0_CLK/CTIMER1_MAT0, E1 PIO3_16/FC8_RXD_SDA_MOSI/SD_D(4), E2 PIO3_24/FC2_RTS_SCL_SSEL1/CTIMER4_CAP0/USB0_VBUS, E3 PIO3_14/SCT0_OUT4/FC9_RTS_SCL_SSEL1/CTIMER3_MAT1/TRACEDATA(2), H4 PIO3_13/SCT0_OUT9/FC9_CTS_SDA_SSEL0/CTIMER3_CAP1/EMC_FBCK/TRACEDATA(1), J3 PIO3_19/FC8_RTS_SCL_SSEL1/SD_D(7)/CTIMER4_MAT1/CAN0_RD/SCT0_OUT6, J14 PIO3_31/FC9_RTS_SCL_SSEL1/SCT0_OUT5/CTIMER4_MAT2/SCT0_GPI0/EMC_A(20), K1 PIO3_17/FC8_TXD_SCL_MISO/SD_D(5), K5 PIO3_26/SCT0_OUT0/FC4_RXD_SDA_MOSI/EMC_A(15), K13 PIO3_30/FC9_CTS_SDA_SSEL0/SCT0_OUT4/FC4_SSEL2/EMC_A(19), L2 PIO3_12/SCT0_OUT8/CTIMER3_CAP0/CLKOUT/EMC_CLK(1)/TRACECLK, L13 PIO3_29/SCT0_OUT3/FC4_RTS_SCL_SSEL1/EMC_A(18), M6 PIO3_18/FC8_CTS_SDA_SSEL0/SD_D(6)/CTIMER4_MAT0/CAN0_TD/SCT0_OUT5, M11 PIO3_28/SCT0_OUT2/FC4_CTS_SDA_SSEL0/EMC_A(17), N2 ~{PIO3_20}/FC9_SCK/~{SD_CARD_INT_N}/CLKOUT/SCT0_OUT7, N5 PIO3_22/FC9_TXD_SCL_MISO/ADC0_10, P5 ~{PIO3_21}/FC9_RXD_SDA_MOSI/~{SD_BACKEND_PWR}/CTIMER4_MAT3/UTICK_CAP2/ADC0_9, P9 PIO3_25/CTIMER4_CAP2/FC4_SCK/EMC_A(14), P14 PIO3_27/SCT0_OUT1/FC4_TXD_SCL_MISO/EMC_A(16)
part F pins: A4 PIO4_15/ENET_MDC/CTIMER4_MAT2/FC9_RXD_SDA_MOSI, A6 PIO4_12/ENET_RXD1/FC2_RTS_SCL_SSEL1/SCT0_GPI5, A9 PIO4_11/ENET_RXD0/FC2_CTS_SDA_SSEL0/USB0_IDVALUE/SCT0_GPI4, A12 PIO4_9/ENET_TXD1/FC2_RXD_SDA_MOSI/USB1_PORTPWRN/USB1_FRAME/SCT0_GPI2, A14 PIO4_7/CTIMER4_CAP3/USB0_PORTPWRN/USB0_FRAME/SCT0_GPI0, B5 PIO4_14/ENET_RX_CLK/CTIMER4_MAT1/FC9_SCK/SCT0_GPI7, B6 PIO4_13/ENET_TX_EN/CTIMER4_MAT0/SCT0_GPI6, B9 PIO4_10/ENET_RX_DV/FC2_TXD_SCL_MISO/USB1_OVERCURRENTN/USB1_LEDN/SCT0_GPI3, B14 PIO4_8/ENET_TXD0/FC2_SCK/USB0_OVERCURRENTN/USB0_LEDN/SCT0_GPI1, C4 PIO4_16/ENET_MDIO/CTIMER4_MAT3/FC9_TXD_SCL_MISO, D9 PIO4_4/FC4_SSEL3/FC0_RTS_SCL_SSEL1/SCT0_GPI5/EMC_DYCSN(3), D10 PIO4_6/FC9_RTS_SCL_SSEL1/SCT0_GPI7/EMC_CKE(3), E10 PIO4_5/FC9_CTS_SDA_SSEL0/FC0_CTS_SDA_SSEL0/CTIMER4_MAT3/SCT0_GPI6/EMC_CKE(2), F13 PIO4_3/FC6_TXD_SCL_MISO_WS/CTIMER0_CAP3/SCT0_GPI4/EMC_DYCSN(2), F14 PIO4_2/FC6_RXD_SDA_MOSI_DATA/SCT0_GPI3/EMC_CSN(3), G14 PIO4_1/FC6_SCK/SCT0_GPI2/EMC_CSN(2), H13 PIO4_0/FC6_CTS_SDA_SSEL0/CTIMER4_CAP1/SCT0_GPI1/EMC_CSN(1)


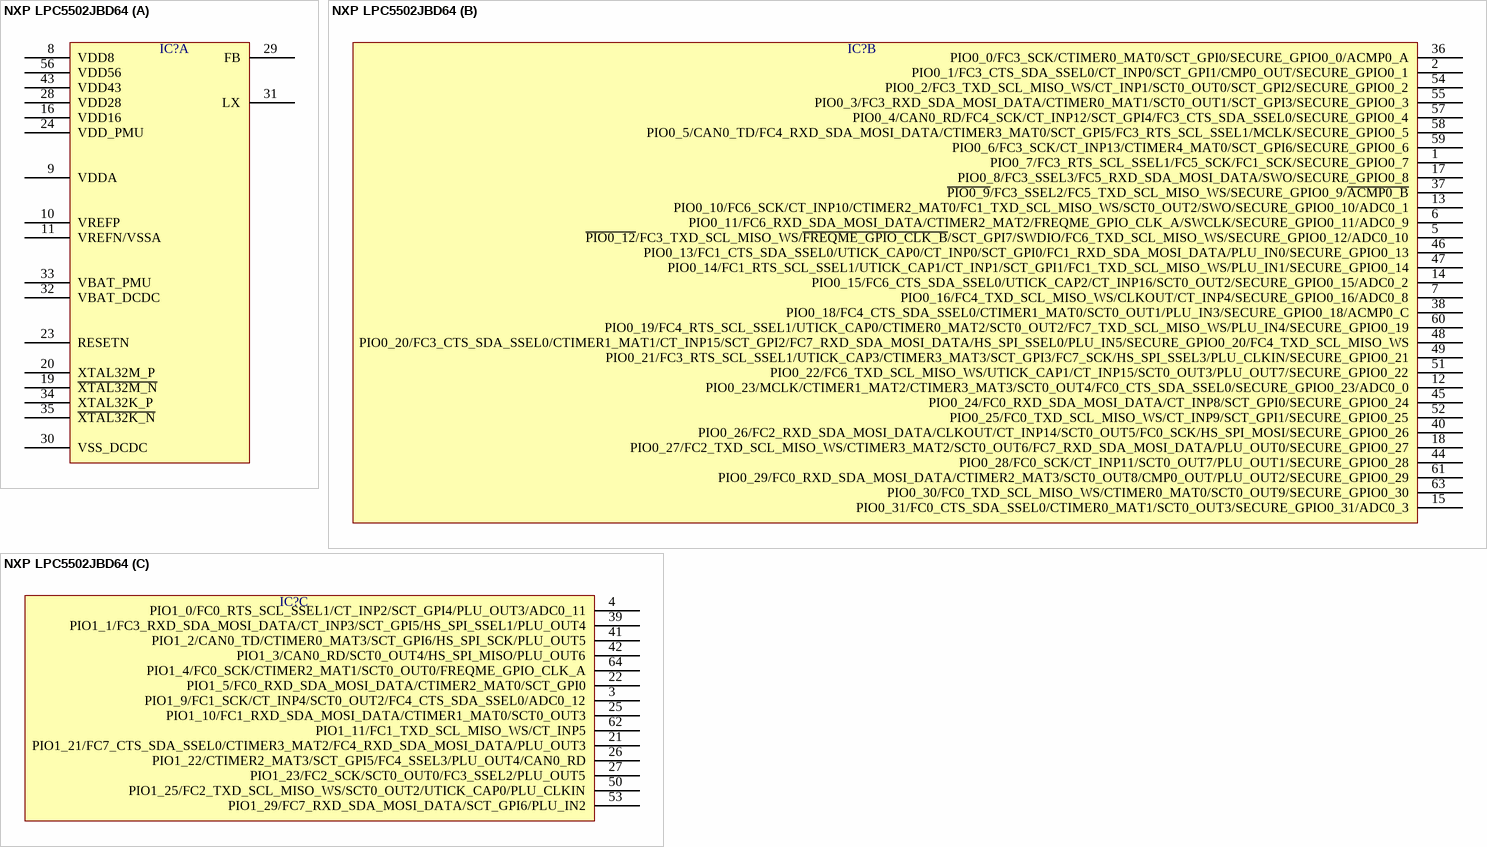
[diagram p350: symbol NXP LPC5502JBD64]

## NXP LPC5502JBD64
designator IC?  (value not drawn)
part A pins: 8 VDD8, 9 VDDA, 10 VREFP, 11 VREFN/VSSA, 16 VDD16, 19 ~{XTAL32M_N}, 20 XTAL32M_P, 23 RESETN, 24 VDD_PMU, 28 VDD28, 29 FB, 30 VSS_DCDC, 31 LX, 32 VBAT_DCDC, 33 VBAT_PMU, 34 XTAL32K_P, 35 ~{XTAL32K_N}, 43 VDD43, 56 VDD56
part B pins: 1 PIO0_7/FC3_RTS_SCL_SSEL1/FC5_SCK/FC1_SCK/SECURE_GPIO0_7, 2 PIO0_1/FC3_CTS_SDA_SSEL0/CT_INP0/SCT_GPI1/CMP0_OUT/SECURE_GPIO0_1, 5 ~{PIO0_12}/FC3_TXD_SCL_MISO_WS/~{FREQME_GPIO_CLK_B}/SCT_GPI7/SWDIO/FC6_TXD_SCL_MISO_WS/SECURE_GPIO0_12/ADC0_10, 6 PIO0_11/FC6_RXD_SDA_MOSI_DATA/CTIMER2_MAT2/FREQME_GPIO_CLK_A/SWCLK/SECURE_GPIO0_11/ADC0_9, 7 PIO0_16/FC4_TXD_SCL_MISO_WS/CLKOUT/CT_INP4/SECURE_GPIO0_16/ADC0_8, 12 PIO0_23/MCLK/CTIMER1_MAT2/CTIMER3_MAT3/SCT0_OUT4/FC0_CTS_SDA_SSEL0/SECURE_GPIO0_23/ADC0_0, 13 PIO0_10/FC6_SCK/CT_INP10/CTIMER2_MAT0/FC1_TXD_SCL_MISO_WS/SCT0_OUT2/SWO/SECURE_GPIO0_10/ADC0_1, 14 PIO0_15/FC6_CTS_SDA_SSEL0/UTICK_CAP2/CT_INP16/SCT0_OUT2/SECURE_GPIO0_15/ADC0_2, 15 PIO0_31/FC0_CTS_SDA_SSEL0/CTIMER0_MAT1/SCT0_OUT3/SECURE_GPIO0_31/ADC0_3, 17 PIO0_8/FC3_SSEL3/FC5_RXD_SDA_MOSI_DATA/SWO/SECURE_GPIO0_8, 18 PIO0_27/FC2_TXD_SCL_MISO_WS/CTIMER3_MAT2/SCT0_OUT6/FC7_RXD_SDA_MOSI_DATA/PLU_OUT0/SECURE_GPIO0_27, 36 PIO0_0/FC3_SCK/CTIMER0_MAT0/SCT_GPI0/SECURE_GPIO0_0/ACMP0_A, 37 ~{PIO0_9}/FC3_SSEL2/FC5_TXD_SCL_MISO_WS/SECURE_GPIO0_9/~{ACMP0_B}, 38 PIO0_18/FC4_CTS_SDA_SSEL0/CTIMER1_MAT0/SCT0_OUT1/PLU_IN3/SECURE_GPIO0_18/ACMP0_C, 40 PIO0_26/FC2_RXD_SDA_MOSI_DATA/CLKOUT/CT_INP14/SCT0_OUT5/FC0_SCK/HS_SPI_MOSI/SECURE_GPIO0_26, 44 PIO0_28/FC0_SCK/CT_INP11/SCT0_OUT7/PLU_OUT1/SECURE_GPIO0_28, 45 PIO0_24/FC0_RXD_SDA_MOSI_DATA/CT_INP8/SCT_GPI0/SECURE_GPIO0_24, 46 PIO0_13/FC1_CTS_SDA_SSEL0/UTICK_CAP0/CT_INP0/SCT_GPI0/FC1_RXD_SDA_MOSI_DATA/PLU_IN0/SECURE_GPIO0_13, 47 PIO0_14/FC1_RTS_SCL_SSEL1/UTICK_CAP1/CT_INP1/SCT_GPI1/FC1_TXD_SCL_MISO_WS/PLU_IN1/SECURE_GPIO0_14, 48 PIO0_20/FC3_CTS_SDA_SSEL0/CTIMER1_MAT1/CT_INP15/SCT_GPI2/FC7_RXD_SDA_MOSI_DATA/HS_SPI_SSEL0/PLU_IN5/SECURE_GPIO0_20/FC4_TXD_SCL_MISO_WS, 49 PIO0_21/FC3_RTS_SCL_SSEL1/UTICK_CAP3/CTIMER3_MAT3/SCT_GPI3/FC7_SCK/HS_SPI_SSEL3/PLU_CLKIN/SECURE_GPIO0_21, 51 PIO0_22/FC6_TXD_SCL_MISO_WS/UTICK_CAP1/CT_INP15/SCT0_OUT3/PLU_OUT7/SECURE_GPIO0_22, 52 PIO0_25/FC0_TXD_SCL_MISO_WS/CT_INP9/SCT_GPI1/SECURE_GPIO0_25, 54 PIO0_2/FC3_TXD_SCL_MISO_WS/CT_INP1/SCT0_OUT0/SCT_GPI2/SECURE_GPIO0_2, 55 PIO0_3/FC3_RXD_SDA_MOSI_DATA/CTIMER0_MAT1/SCT0_OUT1/SCT_GPI3/SECURE_GPIO0_3, 57 PIO0_4/CAN0_RD/FC4_SCK/CT_INP12/SCT_GPI4/FC3_CTS_SDA_SSEL0/SECURE_GPIO0_4, 58 PIO0_5/CAN0_TD/FC4_RXD_SDA_MOSI_DATA/CTIMER3_MAT0/SCT_GPI5/FC3_RTS_SCL_SSEL1/MCLK/SECURE_GPIO0_5, 59 PIO0_6/FC3_SCK/CT_INP13/CTIMER4_MAT0/SCT_GPI6/SECURE_GPIO0_6, 60 PIO0_19/FC4_RTS_SCL_SSEL1/UTICK_CAP0/CTIMER0_MAT2/SCT0_OUT2/FC7_TXD_SCL_MISO_WS/PLU_IN4/SECURE_GPIO0_19, 61 PIO0_29/FC0_RXD_SDA_MOSI_DATA/CTIMER2_MAT3/SCT0_OUT8/CMP0_OUT/PLU_OUT2/SECURE_GPIO0_29, 63 PIO0_30/FC0_TXD_SCL_MISO_WS/CTIMER0_MAT0/SCT0_OUT9/SECURE_GPIO0_30
part C pins: 3 PIO1_9/FC1_SCK/CT_INP4/SCT0_OUT2/FC4_CTS_SDA_SSEL0/ADC0_12, 4 PIO1_0/FC0_RTS_SCL_SSEL1/CT_INP2/SCT_GPI4/PLU_OUT3/ADC0_11, 21 PIO1_21/FC7_CTS_SDA_SSEL0/CTIMER3_MAT2/FC4_RXD_SDA_MOSI_DATA/PLU_OUT3, 22 PIO1_5/FC0_RXD_SDA_MOSI_DATA/CTIMER2_MAT0/SCT_GPI0, 25 PIO1_10/FC1_RXD_SDA_MOSI_DATA/CTIMER1_MAT0/SCT0_OUT3, 26 PIO1_22/CTIMER2_MAT3/SCT_GPI5/FC4_SSEL3/PLU_OUT4/CAN0_RD, 27 PIO1_23/FC2_SCK/SCT0_OUT0/FC3_SSEL2/PLU_OUT5, 39 PIO1_1/FC3_RXD_SDA_MOSI_DATA/CT_INP3/SCT_GPI5/HS_SPI_SSEL1/PLU_OUT4, 41 PIO1_2/CAN0_TD/CTIMER0_MAT3/SCT_GPI6/HS_SPI_SCK/PLU_OUT5, 42 PIO1_3/CAN0_RD/SCT0_OUT4/HS_SPI_MISO/PLU_OUT6, 50 PIO1_25/FC2_TXD_SCL_MISO_WS/SCT0_OUT2/UTICK_CAP0/PLU_CLKIN, 53 PIO1_29/FC7_RXD_SDA_MOSI_DATA/SCT_GPI6/PLU_IN2, 62 PIO1_11/FC1_TXD_SCL_MISO_WS/CT_INP5, 64 PIO1_4/FC0_SCK/CTIMER2_MAT1/SCT0_OUT0/FREQME_GPIO_CLK_A


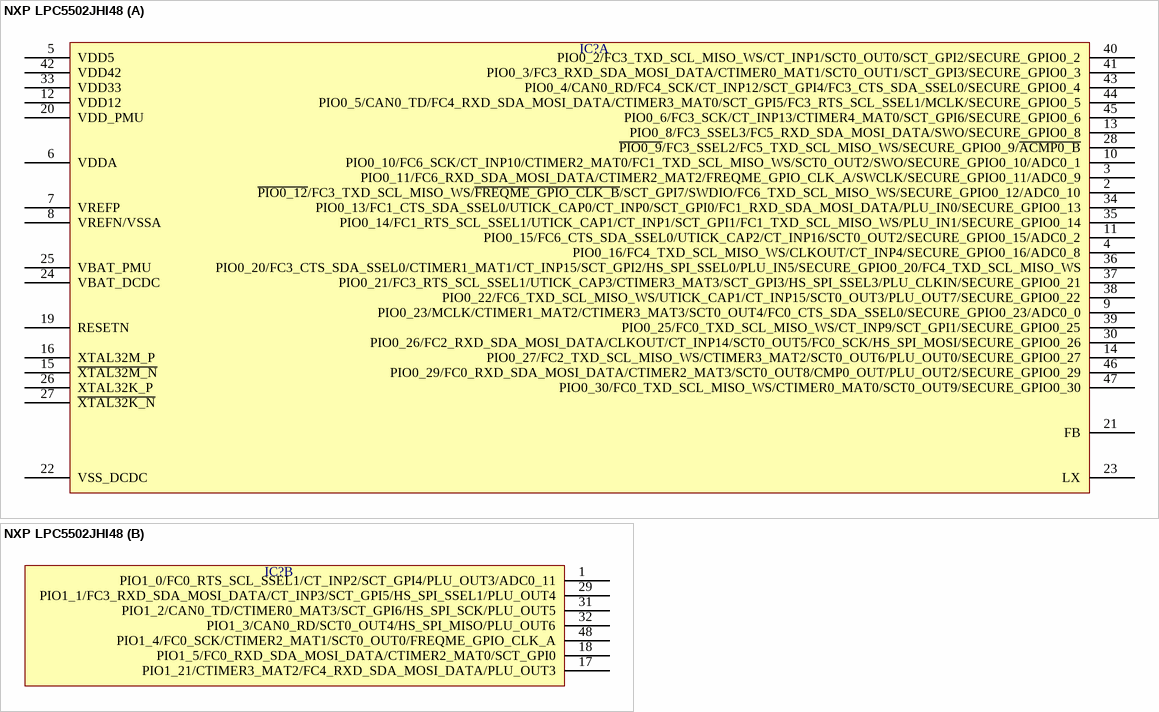
[diagram p351: symbol NXP LPC5502JHI48]

## NXP LPC5502JHI48
designator IC?  (value not drawn)
part A pins: 2 ~{PIO0_12}/FC3_TXD_SCL_MISO_WS/~{FREQME_GPIO_CLK_B}/SCT_GPI7/SWDIO/FC6_TXD_SCL_MISO_WS/SECURE_GPIO0_12/ADC0_10, 3 PIO0_11/FC6_RXD_SDA_MOSI_DATA/CTIMER2_MAT2/FREQME_GPIO_CLK_A/SWCLK/SECURE_GPIO0_11/ADC0_9, 4 PIO0_16/FC4_TXD_SCL_MISO_WS/CLKOUT/CT_INP4/SECURE_GPIO0_16/ADC0_8, 5 VDD5, 6 VDDA, 7 VREFP, 8 VREFN/VSSA, 9 PIO0_23/MCLK/CTIMER1_MAT2/CTIMER3_MAT3/SCT0_OUT4/FC0_CTS_SDA_SSEL0/SECURE_GPIO0_23/ADC0_0, 10 PIO0_10/FC6_SCK/CT_INP10/CTIMER2_MAT0/FC1_TXD_SCL_MISO_WS/SCT0_OUT2/SWO/SECURE_GPIO0_10/ADC0_1, 11 PIO0_15/FC6_CTS_SDA_SSEL0/UTICK_CAP2/CT_INP16/SCT0_OUT2/SECURE_GPIO0_15/ADC0_2, 12 VDD12, 13 PIO0_8/FC3_SSEL3/FC5_RXD_SDA_MOSI_DATA/SWO/SECURE_GPIO0_8, 14 PIO0_27/FC2_TXD_SCL_MISO_WS/CTIMER3_MAT2/SCT0_OUT6/PLU_OUT0/SECURE_GPIO0_27, 15 ~{XTAL32M_N}, 16 XTAL32M_P, 19 RESETN, 20 VDD_PMU, 21 FB, 22 VSS_DCDC, 23 LX, 24 VBAT_DCDC, 25 VBAT_PMU, 26 XTAL32K_P, 27 ~{XTAL32K_N}, 28 ~{PIO0_9}/FC3_SSEL2/FC5_TXD_SCL_MISO_WS/SECURE_GPIO0_9/~{ACMP0_B}, 30 PIO0_26/FC2_RXD_SDA_MOSI_DATA/CLKOUT/CT_INP14/SCT0_OUT5/FC0_SCK/HS_SPI_MOSI/SECURE_GPIO0_26, 33 VDD33, 34 PIO0_13/FC1_CTS_SDA_SSEL0/UTICK_CAP0/CT_INP0/SCT_GPI0/FC1_RXD_SDA_MOSI_DATA/PLU_IN0/SECURE_GPIO0_13, 35 PIO0_14/FC1_RTS_SCL_SSEL1/UTICK_CAP1/CT_INP1/SCT_GPI1/FC1_TXD_SCL_MISO_WS/PLU_IN1/SECURE_GPIO0_14, 36 PIO0_20/FC3_CTS_SDA_SSEL0/CTIMER1_MAT1/CT_INP15/SCT_GPI2/HS_SPI_SSEL0/PLU_IN5/SECURE_GPIO0_20/FC4_TXD_SCL_MISO_WS, 37 PIO0_21/FC3_RTS_SCL_SSEL1/UTICK_CAP3/CTIMER3_MAT3/SCT_GPI3/HS_SPI_SSEL3/PLU_CLKIN/SECURE_GPIO0_21, 38 PIO0_22/FC6_TXD_SCL_MISO_WS/UTICK_CAP1/CT_INP15/SCT0_OUT3/PLU_OUT7/SECURE_GPIO0_22, 39 PIO0_25/FC0_TXD_SCL_MISO_WS/CT_INP9/SCT_GPI1/SECURE_GPIO0_25, 40 PIO0_2/FC3_TXD_SCL_MISO_WS/CT_INP1/SCT0_OUT0/SCT_GPI2/SECURE_GPIO0_2, 41 PIO0_3/FC3_RXD_SDA_MOSI_DATA/CTIMER0_MAT1/SCT0_OUT1/SCT_GPI3/SECURE_GPIO0_3, 42 VDD42, 43 PIO0_4/CAN0_RD/FC4_SCK/CT_INP12/SCT_GPI4/FC3_CTS_SDA_SSEL0/SECURE_GPIO0_4, 44 PIO0_5/CAN0_TD/FC4_RXD_SDA_MOSI_DATA/CTIMER3_MAT0/SCT_GPI5/FC3_RTS_SCL_SSEL1/MCLK/SECURE_GPIO0_5, 45 PIO0_6/FC3_SCK/CT_INP13/CTIMER4_MAT0/SCT_GPI6/SECURE_GPIO0_6, 46 PIO0_29/FC0_RXD_SDA_MOSI_DATA/CTIMER2_MAT3/SCT0_OUT8/CMP0_OUT/PLU_OUT2/SECURE_GPIO0_29, 47 PIO0_30/FC0_TXD_SCL_MISO_WS/CTIMER0_MAT0/SCT0_OUT9/SECURE_GPIO0_30
part B pins: 1 PIO1_0/FC0_RTS_SCL_SSEL1/CT_INP2/SCT_GPI4/PLU_OUT3/ADC0_11, 17 PIO1_21/CTIMER3_MAT2/FC4_RXD_SDA_MOSI_DATA/PLU_OUT3, 18 PIO1_5/FC0_RXD_SDA_MOSI_DATA/CTIMER2_MAT0/SCT_GPI0, 29 PIO1_1/FC3_RXD_SDA_MOSI_DATA/CT_INP3/SCT_GPI5/HS_SPI_SSEL1/PLU_OUT4, 31 PIO1_2/CAN0_TD/CTIMER0_MAT3/SCT_GPI6/HS_SPI_SCK/PLU_OUT5, 32 PIO1_3/CAN0_RD/SCT0_OUT4/HS_SPI_MISO/PLU_OUT6, 48 PIO1_4/FC0_SCK/CTIMER2_MAT1/SCT0_OUT0/FREQME_GPIO_CLK_A


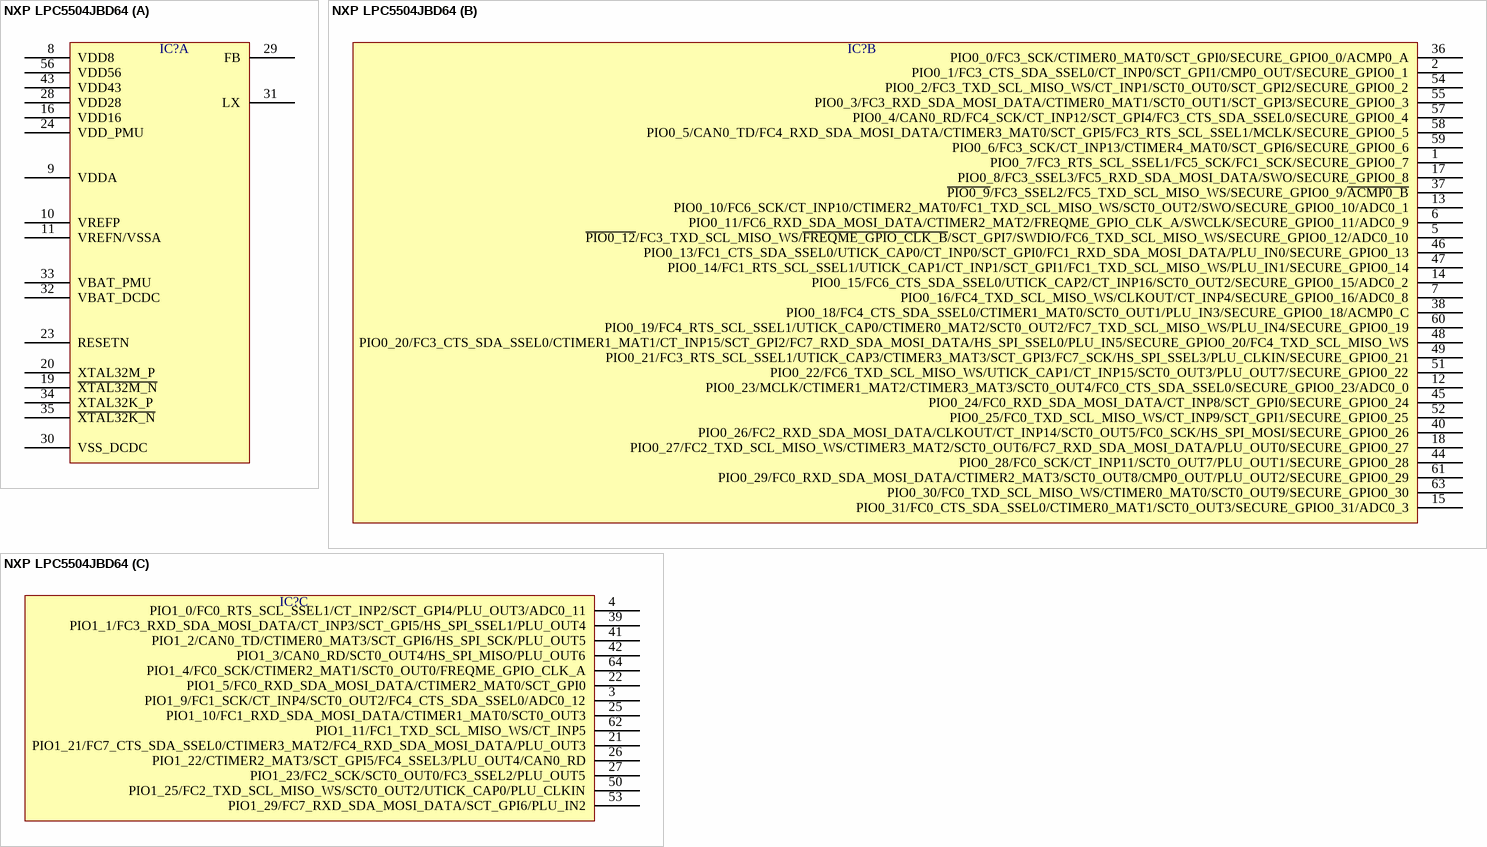
[diagram p352: symbol NXP LPC5504JBD64]

## NXP LPC5504JBD64
designator IC?  (value not drawn)
part A pins: 8 VDD8, 9 VDDA, 10 VREFP, 11 VREFN/VSSA, 16 VDD16, 19 ~{XTAL32M_N}, 20 XTAL32M_P, 23 RESETN, 24 VDD_PMU, 28 VDD28, 29 FB, 30 VSS_DCDC, 31 LX, 32 VBAT_DCDC, 33 VBAT_PMU, 34 XTAL32K_P, 35 ~{XTAL32K_N}, 43 VDD43, 56 VDD56
part B pins: 1 PIO0_7/FC3_RTS_SCL_SSEL1/FC5_SCK/FC1_SCK/SECURE_GPIO0_7, 2 PIO0_1/FC3_CTS_SDA_SSEL0/CT_INP0/SCT_GPI1/CMP0_OUT/SECURE_GPIO0_1, 5 ~{PIO0_12}/FC3_TXD_SCL_MISO_WS/~{FREQME_GPIO_CLK_B}/SCT_GPI7/SWDIO/FC6_TXD_SCL_MISO_WS/SECURE_GPIO0_12/ADC0_10, 6 PIO0_11/FC6_RXD_SDA_MOSI_DATA/CTIMER2_MAT2/FREQME_GPIO_CLK_A/SWCLK/SECURE_GPIO0_11/ADC0_9, 7 PIO0_16/FC4_TXD_SCL_MISO_WS/CLKOUT/CT_INP4/SECURE_GPIO0_16/ADC0_8, 12 PIO0_23/MCLK/CTIMER1_MAT2/CTIMER3_MAT3/SCT0_OUT4/FC0_CTS_SDA_SSEL0/SECURE_GPIO0_23/ADC0_0, 13 PIO0_10/FC6_SCK/CT_INP10/CTIMER2_MAT0/FC1_TXD_SCL_MISO_WS/SCT0_OUT2/SWO/SECURE_GPIO0_10/ADC0_1, 14 PIO0_15/FC6_CTS_SDA_SSEL0/UTICK_CAP2/CT_INP16/SCT0_OUT2/SECURE_GPIO0_15/ADC0_2, 15 PIO0_31/FC0_CTS_SDA_SSEL0/CTIMER0_MAT1/SCT0_OUT3/SECURE_GPIO0_31/ADC0_3, 17 PIO0_8/FC3_SSEL3/FC5_RXD_SDA_MOSI_DATA/SWO/SECURE_GPIO0_8, 18 PIO0_27/FC2_TXD_SCL_MISO_WS/CTIMER3_MAT2/SCT0_OUT6/FC7_RXD_SDA_MOSI_DATA/PLU_OUT0/SECURE_GPIO0_27, 36 PIO0_0/FC3_SCK/CTIMER0_MAT0/SCT_GPI0/SECURE_GPIO0_0/ACMP0_A, 37 ~{PIO0_9}/FC3_SSEL2/FC5_TXD_SCL_MISO_WS/SECURE_GPIO0_9/~{ACMP0_B}, 38 PIO0_18/FC4_CTS_SDA_SSEL0/CTIMER1_MAT0/SCT0_OUT1/PLU_IN3/SECURE_GPIO0_18/ACMP0_C, 40 PIO0_26/FC2_RXD_SDA_MOSI_DATA/CLKOUT/CT_INP14/SCT0_OUT5/FC0_SCK/HS_SPI_MOSI/SECURE_GPIO0_26, 44 PIO0_28/FC0_SCK/CT_INP11/SCT0_OUT7/PLU_OUT1/SECURE_GPIO0_28, 45 PIO0_24/FC0_RXD_SDA_MOSI_DATA/CT_INP8/SCT_GPI0/SECURE_GPIO0_24, 46 PIO0_13/FC1_CTS_SDA_SSEL0/UTICK_CAP0/CT_INP0/SCT_GPI0/FC1_RXD_SDA_MOSI_DATA/PLU_IN0/SECURE_GPIO0_13, 47 PIO0_14/FC1_RTS_SCL_SSEL1/UTICK_CAP1/CT_INP1/SCT_GPI1/FC1_TXD_SCL_MISO_WS/PLU_IN1/SECURE_GPIO0_14, 48 PIO0_20/FC3_CTS_SDA_SSEL0/CTIMER1_MAT1/CT_INP15/SCT_GPI2/FC7_RXD_SDA_MOSI_DATA/HS_SPI_SSEL0/PLU_IN5/SECURE_GPIO0_20/FC4_TXD_SCL_MISO_WS, 49 PIO0_21/FC3_RTS_SCL_SSEL1/UTICK_CAP3/CTIMER3_MAT3/SCT_GPI3/FC7_SCK/HS_SPI_SSEL3/PLU_CLKIN/SECURE_GPIO0_21, 51 PIO0_22/FC6_TXD_SCL_MISO_WS/UTICK_CAP1/CT_INP15/SCT0_OUT3/PLU_OUT7/SECURE_GPIO0_22, 52 PIO0_25/FC0_TXD_SCL_MISO_WS/CT_INP9/SCT_GPI1/SECURE_GPIO0_25, 54 PIO0_2/FC3_TXD_SCL_MISO_WS/CT_INP1/SCT0_OUT0/SCT_GPI2/SECURE_GPIO0_2, 55 PIO0_3/FC3_RXD_SDA_MOSI_DATA/CTIMER0_MAT1/SCT0_OUT1/SCT_GPI3/SECURE_GPIO0_3, 57 PIO0_4/CAN0_RD/FC4_SCK/CT_INP12/SCT_GPI4/FC3_CTS_SDA_SSEL0/SECURE_GPIO0_4, 58 PIO0_5/CAN0_TD/FC4_RXD_SDA_MOSI_DATA/CTIMER3_MAT0/SCT_GPI5/FC3_RTS_SCL_SSEL1/MCLK/SECURE_GPIO0_5, 59 PIO0_6/FC3_SCK/CT_INP13/CTIMER4_MAT0/SCT_GPI6/SECURE_GPIO0_6, 60 PIO0_19/FC4_RTS_SCL_SSEL1/UTICK_CAP0/CTIMER0_MAT2/SCT0_OUT2/FC7_TXD_SCL_MISO_WS/PLU_IN4/SECURE_GPIO0_19, 61 PIO0_29/FC0_RXD_SDA_MOSI_DATA/CTIMER2_MAT3/SCT0_OUT8/CMP0_OUT/PLU_OUT2/SECURE_GPIO0_29, 63 PIO0_30/FC0_TXD_SCL_MISO_WS/CTIMER0_MAT0/SCT0_OUT9/SECURE_GPIO0_30
part C pins: 3 PIO1_9/FC1_SCK/CT_INP4/SCT0_OUT2/FC4_CTS_SDA_SSEL0/ADC0_12, 4 PIO1_0/FC0_RTS_SCL_SSEL1/CT_INP2/SCT_GPI4/PLU_OUT3/ADC0_11, 21 PIO1_21/FC7_CTS_SDA_SSEL0/CTIMER3_MAT2/FC4_RXD_SDA_MOSI_DATA/PLU_OUT3, 22 PIO1_5/FC0_RXD_SDA_MOSI_DATA/CTIMER2_MAT0/SCT_GPI0, 25 PIO1_10/FC1_RXD_SDA_MOSI_DATA/CTIMER1_MAT0/SCT0_OUT3, 26 PIO1_22/CTIMER2_MAT3/SCT_GPI5/FC4_SSEL3/PLU_OUT4/CAN0_RD, 27 PIO1_23/FC2_SCK/SCT0_OUT0/FC3_SSEL2/PLU_OUT5, 39 PIO1_1/FC3_RXD_SDA_MOSI_DATA/CT_INP3/SCT_GPI5/HS_SPI_SSEL1/PLU_OUT4, 41 PIO1_2/CAN0_TD/CTIMER0_MAT3/SCT_GPI6/HS_SPI_SCK/PLU_OUT5, 42 PIO1_3/CAN0_RD/SCT0_OUT4/HS_SPI_MISO/PLU_OUT6, 50 PIO1_25/FC2_TXD_SCL_MISO_WS/SCT0_OUT2/UTICK_CAP0/PLU_CLKIN, 53 PIO1_29/FC7_RXD_SDA_MOSI_DATA/SCT_GPI6/PLU_IN2, 62 PIO1_11/FC1_TXD_SCL_MISO_WS/CT_INP5, 64 PIO1_4/FC0_SCK/CTIMER2_MAT1/SCT0_OUT0/FREQME_GPIO_CLK_A


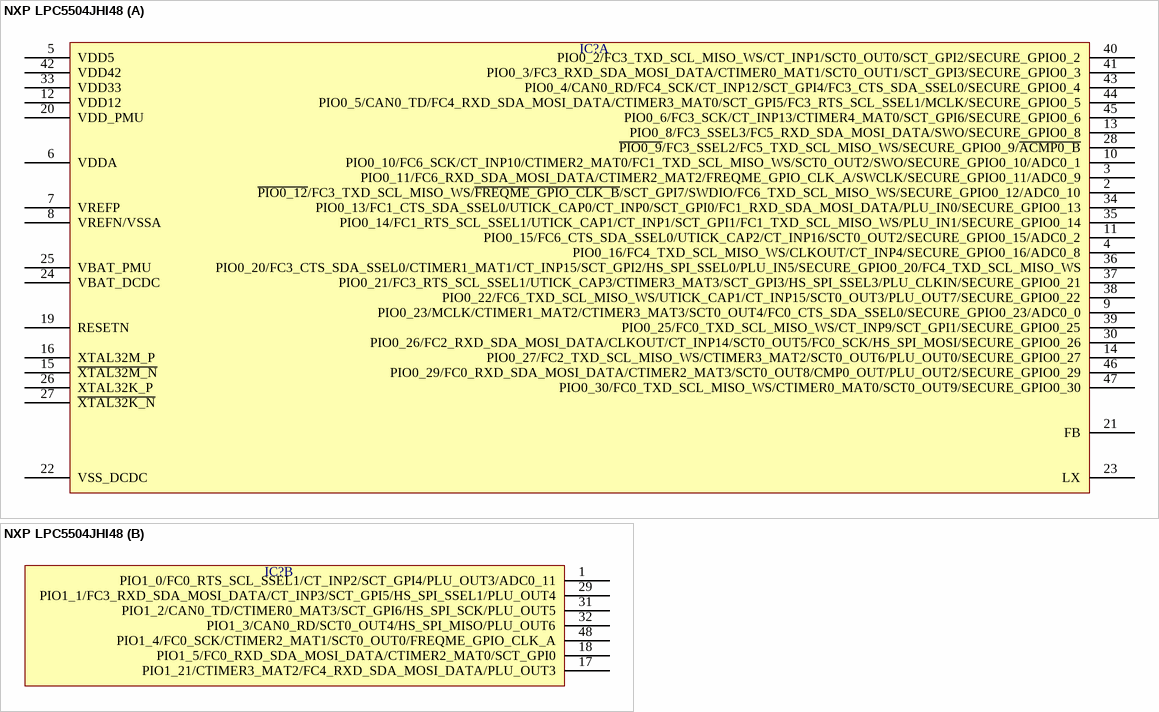
[diagram p353: symbol NXP LPC5504JHI48]

## NXP LPC5504JHI48
designator IC?  (value not drawn)
part A pins: 2 ~{PIO0_12}/FC3_TXD_SCL_MISO_WS/~{FREQME_GPIO_CLK_B}/SCT_GPI7/SWDIO/FC6_TXD_SCL_MISO_WS/SECURE_GPIO0_12/ADC0_10, 3 PIO0_11/FC6_RXD_SDA_MOSI_DATA/CTIMER2_MAT2/FREQME_GPIO_CLK_A/SWCLK/SECURE_GPIO0_11/ADC0_9, 4 PIO0_16/FC4_TXD_SCL_MISO_WS/CLKOUT/CT_INP4/SECURE_GPIO0_16/ADC0_8, 5 VDD5, 6 VDDA, 7 VREFP, 8 VREFN/VSSA, 9 PIO0_23/MCLK/CTIMER1_MAT2/CTIMER3_MAT3/SCT0_OUT4/FC0_CTS_SDA_SSEL0/SECURE_GPIO0_23/ADC0_0, 10 PIO0_10/FC6_SCK/CT_INP10/CTIMER2_MAT0/FC1_TXD_SCL_MISO_WS/SCT0_OUT2/SWO/SECURE_GPIO0_10/ADC0_1, 11 PIO0_15/FC6_CTS_SDA_SSEL0/UTICK_CAP2/CT_INP16/SCT0_OUT2/SECURE_GPIO0_15/ADC0_2, 12 VDD12, 13 PIO0_8/FC3_SSEL3/FC5_RXD_SDA_MOSI_DATA/SWO/SECURE_GPIO0_8, 14 PIO0_27/FC2_TXD_SCL_MISO_WS/CTIMER3_MAT2/SCT0_OUT6/PLU_OUT0/SECURE_GPIO0_27, 15 ~{XTAL32M_N}, 16 XTAL32M_P, 19 RESETN, 20 VDD_PMU, 21 FB, 22 VSS_DCDC, 23 LX, 24 VBAT_DCDC, 25 VBAT_PMU, 26 XTAL32K_P, 27 ~{XTAL32K_N}, 28 ~{PIO0_9}/FC3_SSEL2/FC5_TXD_SCL_MISO_WS/SECURE_GPIO0_9/~{ACMP0_B}, 30 PIO0_26/FC2_RXD_SDA_MOSI_DATA/CLKOUT/CT_INP14/SCT0_OUT5/FC0_SCK/HS_SPI_MOSI/SECURE_GPIO0_26, 33 VDD33, 34 PIO0_13/FC1_CTS_SDA_SSEL0/UTICK_CAP0/CT_INP0/SCT_GPI0/FC1_RXD_SDA_MOSI_DATA/PLU_IN0/SECURE_GPIO0_13, 35 PIO0_14/FC1_RTS_SCL_SSEL1/UTICK_CAP1/CT_INP1/SCT_GPI1/FC1_TXD_SCL_MISO_WS/PLU_IN1/SECURE_GPIO0_14, 36 PIO0_20/FC3_CTS_SDA_SSEL0/CTIMER1_MAT1/CT_INP15/SCT_GPI2/HS_SPI_SSEL0/PLU_IN5/SECURE_GPIO0_20/FC4_TXD_SCL_MISO_WS, 37 PIO0_21/FC3_RTS_SCL_SSEL1/UTICK_CAP3/CTIMER3_MAT3/SCT_GPI3/HS_SPI_SSEL3/PLU_CLKIN/SECURE_GPIO0_21, 38 PIO0_22/FC6_TXD_SCL_MISO_WS/UTICK_CAP1/CT_INP15/SCT0_OUT3/PLU_OUT7/SECURE_GPIO0_22, 39 PIO0_25/FC0_TXD_SCL_MISO_WS/CT_INP9/SCT_GPI1/SECURE_GPIO0_25, 40 PIO0_2/FC3_TXD_SCL_MISO_WS/CT_INP1/SCT0_OUT0/SCT_GPI2/SECURE_GPIO0_2, 41 PIO0_3/FC3_RXD_SDA_MOSI_DATA/CTIMER0_MAT1/SCT0_OUT1/SCT_GPI3/SECURE_GPIO0_3, 42 VDD42, 43 PIO0_4/CAN0_RD/FC4_SCK/CT_INP12/SCT_GPI4/FC3_CTS_SDA_SSEL0/SECURE_GPIO0_4, 44 PIO0_5/CAN0_TD/FC4_RXD_SDA_MOSI_DATA/CTIMER3_MAT0/SCT_GPI5/FC3_RTS_SCL_SSEL1/MCLK/SECURE_GPIO0_5, 45 PIO0_6/FC3_SCK/CT_INP13/CTIMER4_MAT0/SCT_GPI6/SECURE_GPIO0_6, 46 PIO0_29/FC0_RXD_SDA_MOSI_DATA/CTIMER2_MAT3/SCT0_OUT8/CMP0_OUT/PLU_OUT2/SECURE_GPIO0_29, 47 PIO0_30/FC0_TXD_SCL_MISO_WS/CTIMER0_MAT0/SCT0_OUT9/SECURE_GPIO0_30
part B pins: 1 PIO1_0/FC0_RTS_SCL_SSEL1/CT_INP2/SCT_GPI4/PLU_OUT3/ADC0_11, 17 PIO1_21/CTIMER3_MAT2/FC4_RXD_SDA_MOSI_DATA/PLU_OUT3, 18 PIO1_5/FC0_RXD_SDA_MOSI_DATA/CTIMER2_MAT0/SCT_GPI0, 29 PIO1_1/FC3_RXD_SDA_MOSI_DATA/CT_INP3/SCT_GPI5/HS_SPI_SSEL1/PLU_OUT4, 31 PIO1_2/CAN0_TD/CTIMER0_MAT3/SCT_GPI6/HS_SPI_SCK/PLU_OUT5, 32 PIO1_3/CAN0_RD/SCT0_OUT4/HS_SPI_MISO/PLU_OUT6, 48 PIO1_4/FC0_SCK/CTIMER2_MAT1/SCT0_OUT0/FREQME_GPIO_CLK_A


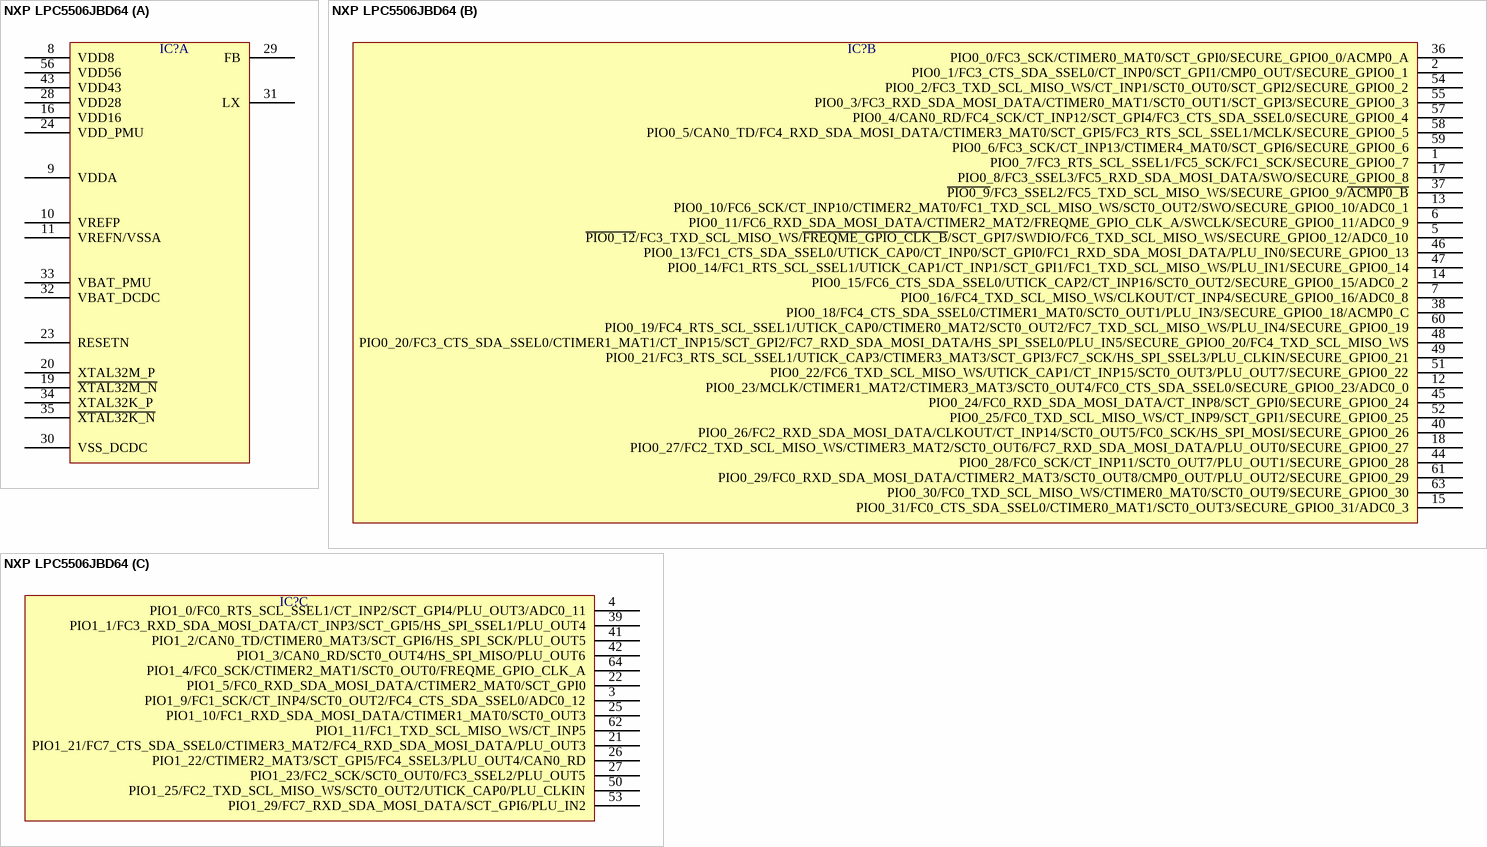
[diagram p354: symbol NXP LPC5506JBD64]

## NXP LPC5506JBD64
designator IC?  (value not drawn)
part A pins: 8 VDD8, 9 VDDA, 10 VREFP, 11 VREFN/VSSA, 16 VDD16, 19 ~{XTAL32M_N}, 20 XTAL32M_P, 23 RESETN, 24 VDD_PMU, 28 VDD28, 29 FB, 30 VSS_DCDC, 31 LX, 32 VBAT_DCDC, 33 VBAT_PMU, 34 XTAL32K_P, 35 ~{XTAL32K_N}, 43 VDD43, 56 VDD56
part B pins: 1 PIO0_7/FC3_RTS_SCL_SSEL1/FC5_SCK/FC1_SCK/SECURE_GPIO0_7, 2 PIO0_1/FC3_CTS_SDA_SSEL0/CT_INP0/SCT_GPI1/CMP0_OUT/SECURE_GPIO0_1, 5 ~{PIO0_12}/FC3_TXD_SCL_MISO_WS/~{FREQME_GPIO_CLK_B}/SCT_GPI7/SWDIO/FC6_TXD_SCL_MISO_WS/SECURE_GPIO0_12/ADC0_10, 6 PIO0_11/FC6_RXD_SDA_MOSI_DATA/CTIMER2_MAT2/FREQME_GPIO_CLK_A/SWCLK/SECURE_GPIO0_11/ADC0_9, 7 PIO0_16/FC4_TXD_SCL_MISO_WS/CLKOUT/CT_INP4/SECURE_GPIO0_16/ADC0_8, 12 PIO0_23/MCLK/CTIMER1_MAT2/CTIMER3_MAT3/SCT0_OUT4/FC0_CTS_SDA_SSEL0/SECURE_GPIO0_23/ADC0_0, 13 PIO0_10/FC6_SCK/CT_INP10/CTIMER2_MAT0/FC1_TXD_SCL_MISO_WS/SCT0_OUT2/SWO/SECURE_GPIO0_10/ADC0_1, 14 PIO0_15/FC6_CTS_SDA_SSEL0/UTICK_CAP2/CT_INP16/SCT0_OUT2/SECURE_GPIO0_15/ADC0_2, 15 PIO0_31/FC0_CTS_SDA_SSEL0/CTIMER0_MAT1/SCT0_OUT3/SECURE_GPIO0_31/ADC0_3, 17 PIO0_8/FC3_SSEL3/FC5_RXD_SDA_MOSI_DATA/SWO/SECURE_GPIO0_8, 18 PIO0_27/FC2_TXD_SCL_MISO_WS/CTIMER3_MAT2/SCT0_OUT6/FC7_RXD_SDA_MOSI_DATA/PLU_OUT0/SECURE_GPIO0_27, 36 PIO0_0/FC3_SCK/CTIMER0_MAT0/SCT_GPI0/SECURE_GPIO0_0/ACMP0_A, 37 ~{PIO0_9}/FC3_SSEL2/FC5_TXD_SCL_MISO_WS/SECURE_GPIO0_9/~{ACMP0_B}, 38 PIO0_18/FC4_CTS_SDA_SSEL0/CTIMER1_MAT0/SCT0_OUT1/PLU_IN3/SECURE_GPIO0_18/ACMP0_C, 40 PIO0_26/FC2_RXD_SDA_MOSI_DATA/CLKOUT/CT_INP14/SCT0_OUT5/FC0_SCK/HS_SPI_MOSI/SECURE_GPIO0_26, 44 PIO0_28/FC0_SCK/CT_INP11/SCT0_OUT7/PLU_OUT1/SECURE_GPIO0_28, 45 PIO0_24/FC0_RXD_SDA_MOSI_DATA/CT_INP8/SCT_GPI0/SECURE_GPIO0_24, 46 PIO0_13/FC1_CTS_SDA_SSEL0/UTICK_CAP0/CT_INP0/SCT_GPI0/FC1_RXD_SDA_MOSI_DATA/PLU_IN0/SECURE_GPIO0_13, 47 PIO0_14/FC1_RTS_SCL_SSEL1/UTICK_CAP1/CT_INP1/SCT_GPI1/FC1_TXD_SCL_MISO_WS/PLU_IN1/SECURE_GPIO0_14, 48 PIO0_20/FC3_CTS_SDA_SSEL0/CTIMER1_MAT1/CT_INP15/SCT_GPI2/FC7_RXD_SDA_MOSI_DATA/HS_SPI_SSEL0/PLU_IN5/SECURE_GPIO0_20/FC4_TXD_SCL_MISO_WS, 49 PIO0_21/FC3_RTS_SCL_SSEL1/UTICK_CAP3/CTIMER3_MAT3/SCT_GPI3/FC7_SCK/HS_SPI_SSEL3/PLU_CLKIN/SECURE_GPIO0_21, 51 PIO0_22/FC6_TXD_SCL_MISO_WS/UTICK_CAP1/CT_INP15/SCT0_OUT3/PLU_OUT7/SECURE_GPIO0_22, 52 PIO0_25/FC0_TXD_SCL_MISO_WS/CT_INP9/SCT_GPI1/SECURE_GPIO0_25, 54 PIO0_2/FC3_TXD_SCL_MISO_WS/CT_INP1/SCT0_OUT0/SCT_GPI2/SECURE_GPIO0_2, 55 PIO0_3/FC3_RXD_SDA_MOSI_DATA/CTIMER0_MAT1/SCT0_OUT1/SCT_GPI3/SECURE_GPIO0_3, 57 PIO0_4/CAN0_RD/FC4_SCK/CT_INP12/SCT_GPI4/FC3_CTS_SDA_SSEL0/SECURE_GPIO0_4, 58 PIO0_5/CAN0_TD/FC4_RXD_SDA_MOSI_DATA/CTIMER3_MAT0/SCT_GPI5/FC3_RTS_SCL_SSEL1/MCLK/SECURE_GPIO0_5, 59 PIO0_6/FC3_SCK/CT_INP13/CTIMER4_MAT0/SCT_GPI6/SECURE_GPIO0_6, 60 PIO0_19/FC4_RTS_SCL_SSEL1/UTICK_CAP0/CTIMER0_MAT2/SCT0_OUT2/FC7_TXD_SCL_MISO_WS/PLU_IN4/SECURE_GPIO0_19, 61 PIO0_29/FC0_RXD_SDA_MOSI_DATA/CTIMER2_MAT3/SCT0_OUT8/CMP0_OUT/PLU_OUT2/SECURE_GPIO0_29, 63 PIO0_30/FC0_TXD_SCL_MISO_WS/CTIMER0_MAT0/SCT0_OUT9/SECURE_GPIO0_30
part C pins: 3 PIO1_9/FC1_SCK/CT_INP4/SCT0_OUT2/FC4_CTS_SDA_SSEL0/ADC0_12, 4 PIO1_0/FC0_RTS_SCL_SSEL1/CT_INP2/SCT_GPI4/PLU_OUT3/ADC0_11, 21 PIO1_21/FC7_CTS_SDA_SSEL0/CTIMER3_MAT2/FC4_RXD_SDA_MOSI_DATA/PLU_OUT3, 22 PIO1_5/FC0_RXD_SDA_MOSI_DATA/CTIMER2_MAT0/SCT_GPI0, 25 PIO1_10/FC1_RXD_SDA_MOSI_DATA/CTIMER1_MAT0/SCT0_OUT3, 26 PIO1_22/CTIMER2_MAT3/SCT_GPI5/FC4_SSEL3/PLU_OUT4/CAN0_RD, 27 PIO1_23/FC2_SCK/SCT0_OUT0/FC3_SSEL2/PLU_OUT5, 39 PIO1_1/FC3_RXD_SDA_MOSI_DATA/CT_INP3/SCT_GPI5/HS_SPI_SSEL1/PLU_OUT4, 41 PIO1_2/CAN0_TD/CTIMER0_MAT3/SCT_GPI6/HS_SPI_SCK/PLU_OUT5, 42 PIO1_3/CAN0_RD/SCT0_OUT4/HS_SPI_MISO/PLU_OUT6, 50 PIO1_25/FC2_TXD_SCL_MISO_WS/SCT0_OUT2/UTICK_CAP0/PLU_CLKIN, 53 PIO1_29/FC7_RXD_SDA_MOSI_DATA/SCT_GPI6/PLU_IN2, 62 PIO1_11/FC1_TXD_SCL_MISO_WS/CT_INP5, 64 PIO1_4/FC0_SCK/CTIMER2_MAT1/SCT0_OUT0/FREQME_GPIO_CLK_A


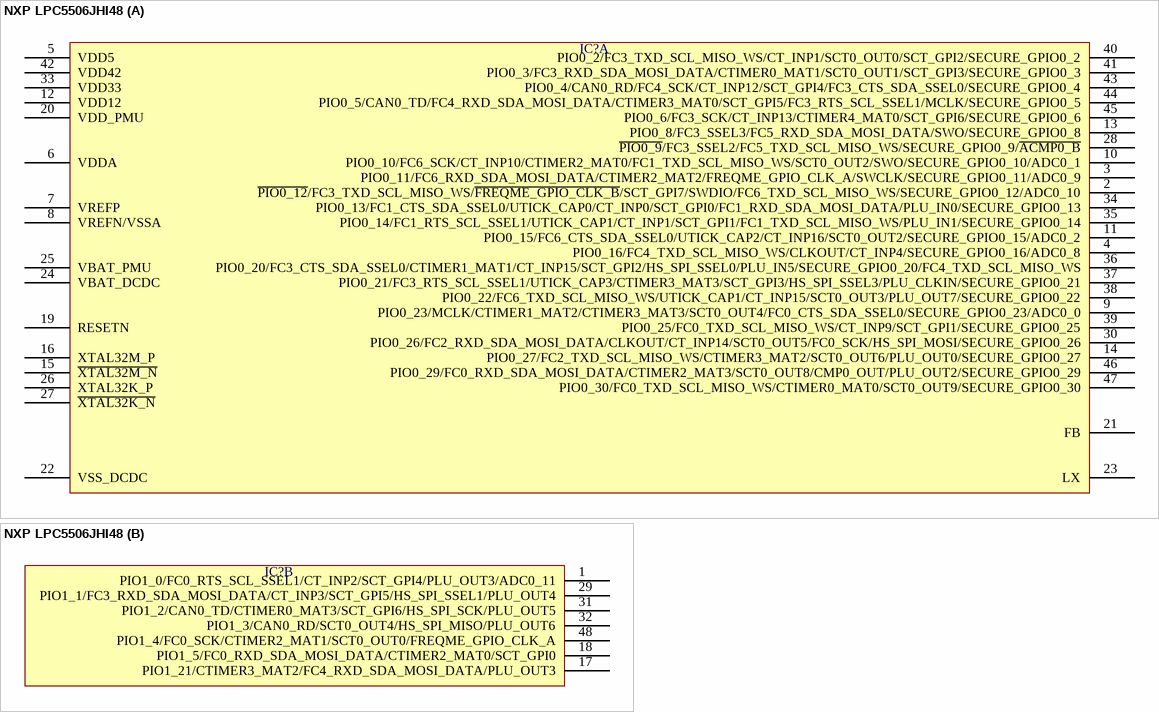
[diagram p355: symbol NXP LPC5506JHI48]

## NXP LPC5506JHI48
designator IC?  (value not drawn)
part A pins: 2 ~{PIO0_12}/FC3_TXD_SCL_MISO_WS/~{FREQME_GPIO_CLK_B}/SCT_GPI7/SWDIO/FC6_TXD_SCL_MISO_WS/SECURE_GPIO0_12/ADC0_10, 3 PIO0_11/FC6_RXD_SDA_MOSI_DATA/CTIMER2_MAT2/FREQME_GPIO_CLK_A/SWCLK/SECURE_GPIO0_11/ADC0_9, 4 PIO0_16/FC4_TXD_SCL_MISO_WS/CLKOUT/CT_INP4/SECURE_GPIO0_16/ADC0_8, 5 VDD5, 6 VDDA, 7 VREFP, 8 VREFN/VSSA, 9 PIO0_23/MCLK/CTIMER1_MAT2/CTIMER3_MAT3/SCT0_OUT4/FC0_CTS_SDA_SSEL0/SECURE_GPIO0_23/ADC0_0, 10 PIO0_10/FC6_SCK/CT_INP10/CTIMER2_MAT0/FC1_TXD_SCL_MISO_WS/SCT0_OUT2/SWO/SECURE_GPIO0_10/ADC0_1, 11 PIO0_15/FC6_CTS_SDA_SSEL0/UTICK_CAP2/CT_INP16/SCT0_OUT2/SECURE_GPIO0_15/ADC0_2, 12 VDD12, 13 PIO0_8/FC3_SSEL3/FC5_RXD_SDA_MOSI_DATA/SWO/SECURE_GPIO0_8, 14 PIO0_27/FC2_TXD_SCL_MISO_WS/CTIMER3_MAT2/SCT0_OUT6/PLU_OUT0/SECURE_GPIO0_27, 15 ~{XTAL32M_N}, 16 XTAL32M_P, 19 RESETN, 20 VDD_PMU, 21 FB, 22 VSS_DCDC, 23 LX, 24 VBAT_DCDC, 25 VBAT_PMU, 26 XTAL32K_P, 27 ~{XTAL32K_N}, 28 ~{PIO0_9}/FC3_SSEL2/FC5_TXD_SCL_MISO_WS/SECURE_GPIO0_9/~{ACMP0_B}, 30 PIO0_26/FC2_RXD_SDA_MOSI_DATA/CLKOUT/CT_INP14/SCT0_OUT5/FC0_SCK/HS_SPI_MOSI/SECURE_GPIO0_26, 33 VDD33, 34 PIO0_13/FC1_CTS_SDA_SSEL0/UTICK_CAP0/CT_INP0/SCT_GPI0/FC1_RXD_SDA_MOSI_DATA/PLU_IN0/SECURE_GPIO0_13, 35 PIO0_14/FC1_RTS_SCL_SSEL1/UTICK_CAP1/CT_INP1/SCT_GPI1/FC1_TXD_SCL_MISO_WS/PLU_IN1/SECURE_GPIO0_14, 36 PIO0_20/FC3_CTS_SDA_SSEL0/CTIMER1_MAT1/CT_INP15/SCT_GPI2/HS_SPI_SSEL0/PLU_IN5/SECURE_GPIO0_20/FC4_TXD_SCL_MISO_WS, 37 PIO0_21/FC3_RTS_SCL_SSEL1/UTICK_CAP3/CTIMER3_MAT3/SCT_GPI3/HS_SPI_SSEL3/PLU_CLKIN/SECURE_GPIO0_21, 38 PIO0_22/FC6_TXD_SCL_MISO_WS/UTICK_CAP1/CT_INP15/SCT0_OUT3/PLU_OUT7/SECURE_GPIO0_22, 39 PIO0_25/FC0_TXD_SCL_MISO_WS/CT_INP9/SCT_GPI1/SECURE_GPIO0_25, 40 PIO0_2/FC3_TXD_SCL_MISO_WS/CT_INP1/SCT0_OUT0/SCT_GPI2/SECURE_GPIO0_2, 41 PIO0_3/FC3_RXD_SDA_MOSI_DATA/CTIMER0_MAT1/SCT0_OUT1/SCT_GPI3/SECURE_GPIO0_3, 42 VDD42, 43 PIO0_4/CAN0_RD/FC4_SCK/CT_INP12/SCT_GPI4/FC3_CTS_SDA_SSEL0/SECURE_GPIO0_4, 44 PIO0_5/CAN0_TD/FC4_RXD_SDA_MOSI_DATA/CTIMER3_MAT0/SCT_GPI5/FC3_RTS_SCL_SSEL1/MCLK/SECURE_GPIO0_5, 45 PIO0_6/FC3_SCK/CT_INP13/CTIMER4_MAT0/SCT_GPI6/SECURE_GPIO0_6, 46 PIO0_29/FC0_RXD_SDA_MOSI_DATA/CTIMER2_MAT3/SCT0_OUT8/CMP0_OUT/PLU_OUT2/SECURE_GPIO0_29, 47 PIO0_30/FC0_TXD_SCL_MISO_WS/CTIMER0_MAT0/SCT0_OUT9/SECURE_GPIO0_30
part B pins: 1 PIO1_0/FC0_RTS_SCL_SSEL1/CT_INP2/SCT_GPI4/PLU_OUT3/ADC0_11, 17 PIO1_21/CTIMER3_MAT2/FC4_RXD_SDA_MOSI_DATA/PLU_OUT3, 18 PIO1_5/FC0_RXD_SDA_MOSI_DATA/CTIMER2_MAT0/SCT_GPI0, 29 PIO1_1/FC3_RXD_SDA_MOSI_DATA/CT_INP3/SCT_GPI5/HS_SPI_SSEL1/PLU_OUT4, 31 PIO1_2/CAN0_TD/CTIMER0_MAT3/SCT_GPI6/HS_SPI_SCK/PLU_OUT5, 32 PIO1_3/CAN0_RD/SCT0_OUT4/HS_SPI_MISO/PLU_OUT6, 48 PIO1_4/FC0_SCK/CTIMER2_MAT1/SCT0_OUT0/FREQME_GPIO_CLK_A


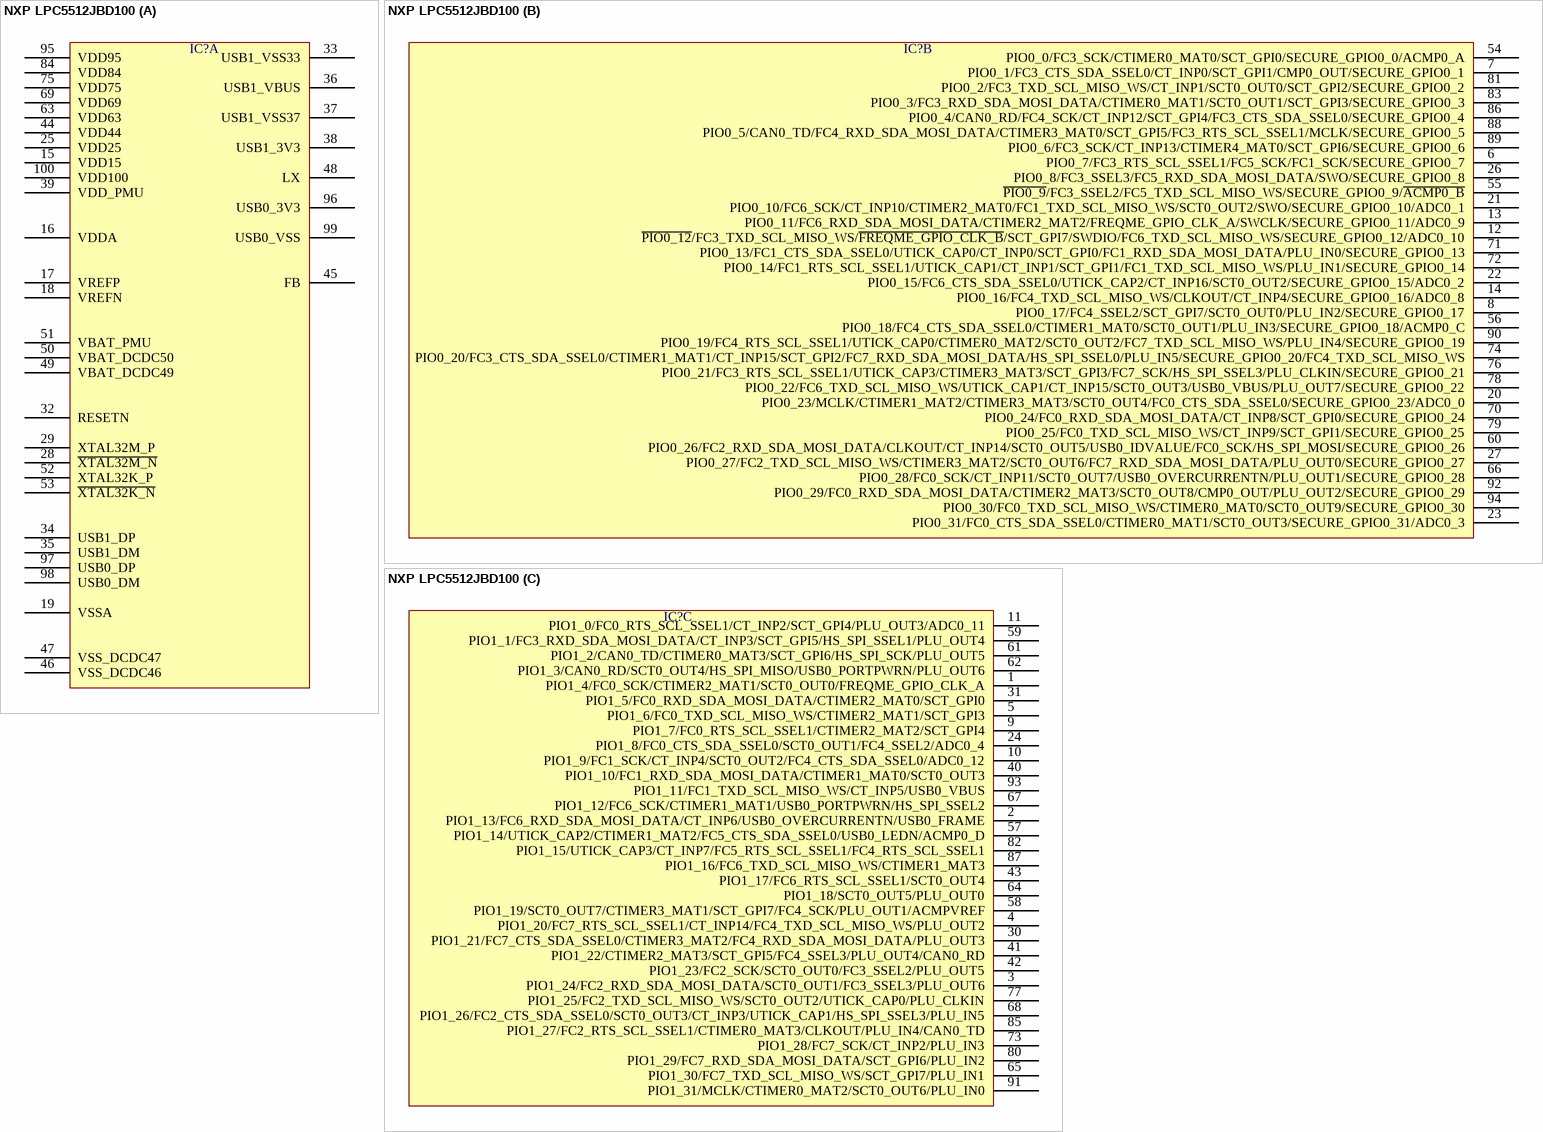
[diagram p356: symbol NXP LPC5512JBD100]

## NXP LPC5512JBD100
designator IC?  (value not drawn)
part A pins: 15 VDD15, 16 VDDA, 17 VREFP, 18 VREFN, 19 VSSA, 25 VDD25, 28 ~{XTAL32M_N}, 29 XTAL32M_P, 32 RESETN, 33 USB1_VSS33, 34 USB1_DP, 35 USB1_DM, 36 USB1_VBUS, 37 USB1_VSS37, 38 USB1_3V3, 39 VDD_PMU, 44 VDD44, 45 FB, 46 VSS_DCDC46, 47 VSS_DCDC47, 48 LX, 49 VBAT_DCDC49, 50 VBAT_DCDC50, 51 VBAT_PMU, 52 XTAL32K_P, 53 ~{XTAL32K_N}, 63 VDD63, 69 VDD69, 75 VDD75, 84 VDD84, 95 VDD95, 96 USB0_3V3, 97 USB0_DP, 98 USB0_DM, 99 USB0_VSS, 100 VDD100
part B pins: 6 PIO0_7/FC3_RTS_SCL_SSEL1/FC5_SCK/FC1_SCK/SECURE_GPIO0_7, 7 PIO0_1/FC3_CTS_SDA_SSEL0/CT_INP0/SCT_GPI1/CMP0_OUT/SECURE_GPIO0_1, 8 PIO0_17/FC4_SSEL2/SCT_GPI7/SCT0_OUT0/PLU_IN2/SECURE_GPIO0_17, 12 ~{PIO0_12}/FC3_TXD_SCL_MISO_WS/~{FREQME_GPIO_CLK_B}/SCT_GPI7/SWDIO/FC6_TXD_SCL_MISO_WS/SECURE_GPIO0_12/ADC0_10, 13 PIO0_11/FC6_RXD_SDA_MOSI_DATA/CTIMER2_MAT2/FREQME_GPIO_CLK_A/SWCLK/SECURE_GPIO0_11/ADC0_9, 14 PIO0_16/FC4_TXD_SCL_MISO_WS/CLKOUT/CT_INP4/SECURE_GPIO0_16/ADC0_8, 20 PIO0_23/MCLK/CTIMER1_MAT2/CTIMER3_MAT3/SCT0_OUT4/FC0_CTS_SDA_SSEL0/SECURE_GPIO0_23/ADC0_0, 21 PIO0_10/FC6_SCK/CT_INP10/CTIMER2_MAT0/FC1_TXD_SCL_MISO_WS/SCT0_OUT2/SWO/SECURE_GPIO0_10/ADC0_1, 22 PIO0_15/FC6_CTS_SDA_SSEL0/UTICK_CAP2/CT_INP16/SCT0_OUT2/SECURE_GPIO0_15/ADC0_2, 23 PIO0_31/FC0_CTS_SDA_SSEL0/CTIMER0_MAT1/SCT0_OUT3/SECURE_GPIO0_31/ADC0_3, 26 PIO0_8/FC3_SSEL3/FC5_RXD_SDA_MOSI_DATA/SWO/SECURE_GPIO0_8, 27 PIO0_27/FC2_TXD_SCL_MISO_WS/CTIMER3_MAT2/SCT0_OUT6/FC7_RXD_SDA_MOSI_DATA/PLU_OUT0/SECURE_GPIO0_27, 54 PIO0_0/FC3_SCK/CTIMER0_MAT0/SCT_GPI0/SECURE_GPIO0_0/ACMP0_A, 55 ~{PIO0_9}/FC3_SSEL2/FC5_TXD_SCL_MISO_WS/SECURE_GPIO0_9/~{ACMP0_B}, 56 PIO0_18/FC4_CTS_SDA_SSEL0/CTIMER1_MAT0/SCT0_OUT1/PLU_IN3/SECURE_GPIO0_18/ACMP0_C, 60 PIO0_26/FC2_RXD_SDA_MOSI_DATA/CLKOUT/CT_INP14/SCT0_OUT5/USB0_IDVALUE/FC0_SCK/HS_SPI_MOSI/SECURE_GPIO0_26, 66 PIO0_28/FC0_SCK/CT_INP11/SCT0_OUT7/USB0_OVERCURRENTN/PLU_OUT1/SECURE_GPIO0_28, 70 PIO0_24/FC0_RXD_SDA_MOSI_DATA/CT_INP8/SCT_GPI0/SECURE_GPIO0_24, 71 PIO0_13/FC1_CTS_SDA_SSEL0/UTICK_CAP0/CT_INP0/SCT_GPI0/FC1_RXD_SDA_MOSI_DATA/PLU_IN0/SECURE_GPIO0_13, 72 PIO0_14/FC1_RTS_SCL_SSEL1/UTICK_CAP1/CT_INP1/SCT_GPI1/FC1_TXD_SCL_MISO_WS/PLU_IN1/SECURE_GPIO0_14, 74 PIO0_20/FC3_CTS_SDA_SSEL0/CTIMER1_MAT1/CT_INP15/SCT_GPI2/FC7_RXD_SDA_MOSI_DATA/HS_SPI_SSEL0/PLU_IN5/SECURE_GPIO0_20/FC4_TXD_SCL_MISO_WS, 76 PIO0_21/FC3_RTS_SCL_SSEL1/UTICK_CAP3/CTIMER3_MAT3/SCT_GPI3/FC7_SCK/HS_SPI_SSEL3/PLU_CLKIN/SECURE_GPIO0_21, 78 PIO0_22/FC6_TXD_SCL_MISO_WS/UTICK_CAP1/CT_INP15/SCT0_OUT3/USB0_VBUS/PLU_OUT7/SECURE_GPIO0_22, 79 PIO0_25/FC0_TXD_SCL_MISO_WS/CT_INP9/SCT_GPI1/SECURE_GPIO0_25, 81 PIO0_2/FC3_TXD_SCL_MISO_WS/CT_INP1/SCT0_OUT0/SCT_GPI2/SECURE_GPIO0_2, 83 PIO0_3/FC3_RXD_SDA_MOSI_DATA/CTIMER0_MAT1/SCT0_OUT1/SCT_GPI3/SECURE_GPIO0_3, 86 PIO0_4/CAN0_RD/FC4_SCK/CT_INP12/SCT_GPI4/FC3_CTS_SDA_SSEL0/SECURE_GPIO0_4, 88 PIO0_5/CAN0_TD/FC4_RXD_SDA_MOSI_DATA/CTIMER3_MAT0/SCT_GPI5/FC3_RTS_SCL_SSEL1/MCLK/SECURE_GPIO0_5, 89 PIO0_6/FC3_SCK/CT_INP13/CTIMER4_MAT0/SCT_GPI6/SECURE_GPIO0_6, 90 PIO0_19/FC4_RTS_SCL_SSEL1/UTICK_CAP0/CTIMER0_MAT2/SCT0_OUT2/FC7_TXD_SCL_MISO_WS/PLU_IN4/SECURE_GPIO0_19, 92 PIO0_29/FC0_RXD_SDA_MOSI_DATA/CTIMER2_MAT3/SCT0_OUT8/CMP0_OUT/PLU_OUT2/SECURE_GPIO0_29, 94 PIO0_30/FC0_TXD_SCL_MISO_WS/CTIMER0_MAT0/SCT0_OUT9/SECURE_GPIO0_30
part C pins: 1 PIO1_4/FC0_SCK/CTIMER2_MAT1/SCT0_OUT0/FREQME_GPIO_CLK_A, 2 PIO1_13/FC6_RXD_SDA_MOSI_DATA/CT_INP6/USB0_OVERCURRENTN/USB0_FRAME, 3 PIO1_24/FC2_RXD_SDA_MOSI_DATA/SCT0_OUT1/FC3_SSEL3/PLU_OUT6, 4 PIO1_20/FC7_RTS_SCL_SSEL1/CT_INP14/FC4_TXD_SCL_MISO_WS/PLU_OUT2, 5 PIO1_6/FC0_TXD_SCL_MISO_WS/CTIMER2_MAT1/SCT_GPI3, 9 PIO1_7/FC0_RTS_SCL_SSEL1/CTIMER2_MAT2/SCT_GPI4, 10 PIO1_9/FC1_SCK/CT_INP4/SCT0_OUT2/FC4_CTS_SDA_SSEL0/ADC0_12, 11 PIO1_0/FC0_RTS_SCL_SSEL1/CT_INP2/SCT_GPI4/PLU_OUT3/ADC0_11, 24 PIO1_8/FC0_CTS_SDA_SSEL0/SCT0_OUT1/FC4_SSEL2/ADC0_4, 30 PIO1_21/FC7_CTS_SDA_SSEL0/CTIMER3_MAT2/FC4_RXD_SDA_MOSI_DATA/PLU_OUT3, 31 PIO1_5/FC0_RXD_SDA_MOSI_DATA/CTIMER2_MAT0/SCT_GPI0, 40 PIO1_10/FC1_RXD_SDA_MOSI_DATA/CTIMER1_MAT0/SCT0_OUT3, 41 PIO1_22/CTIMER2_MAT3/SCT_GPI5/FC4_SSEL3/PLU_OUT4/CAN0_RD, 42 PIO1_23/FC2_SCK/SCT0_OUT0/FC3_SSEL2/PLU_OUT5, 43 PIO1_17/FC6_RTS_SCL_SSEL1/SCT0_OUT4, 57 PIO1_14/UTICK_CAP2/CTIMER1_MAT2/FC5_CTS_SDA_SSEL0/USB0_LEDN/ACMP0_D, 58 PIO1_19/SCT0_OUT7/CTIMER3_MAT1/SCT_GPI7/FC4_SCK/PLU_OUT1/ACMPVREF, 59 PIO1_1/FC3_RXD_SDA_MOSI_DATA/CT_INP3/SCT_GPI5/HS_SPI_SSEL1/PLU_OUT4, 61 PIO1_2/CAN0_TD/CTIMER0_MAT3/SCT_GPI6/HS_SPI_SCK/PLU_OUT5, 62 PIO1_3/CAN0_RD/SCT0_OUT4/HS_SPI_MISO/USB0_PORTPWRN/PLU_OUT6, 64 PIO1_18/SCT0_OUT5/PLU_OUT0, 65 PIO1_30/FC7_TXD_SCL_MISO_WS/SCT_GPI7/PLU_IN1, 67 PIO1_12/FC6_SCK/CTIMER1_MAT1/USB0_PORTPWRN/HS_SPI_SSEL2, 68 PIO1_26/FC2_CTS_SDA_SSEL0/SCT0_OUT3/CT_INP3/UTICK_CAP1/HS_SPI_SSEL3/PLU_IN5, 73 PIO1_28/FC7_SCK/CT_INP2/PLU_IN3, 77 PIO1_25/FC2_TXD_SCL_MISO_WS/SCT0_OUT2/UTICK_CAP0/PLU_CLKIN, 80 PIO1_29/FC7_RXD_SDA_MOSI_DATA/SCT_GPI6/PLU_IN2, 82 PIO1_15/UTICK_CAP3/CT_INP7/FC5_RTS_SCL_SSEL1/FC4_RTS_SCL_SSEL1, 85 PIO1_27/FC2_RTS_SCL_SSEL1/CTIMER0_MAT3/CLKOUT/PLU_IN4/CAN0_TD, 87 PIO1_16/FC6_TXD_SCL_MISO_WS/CTIMER1_MAT3, 91 PIO1_31/MCLK/CTIMER0_MAT2/SCT0_OUT6/PLU_IN0, 93 PIO1_11/FC1_TXD_SCL_MISO_WS/CT_INP5/USB0_VBUS


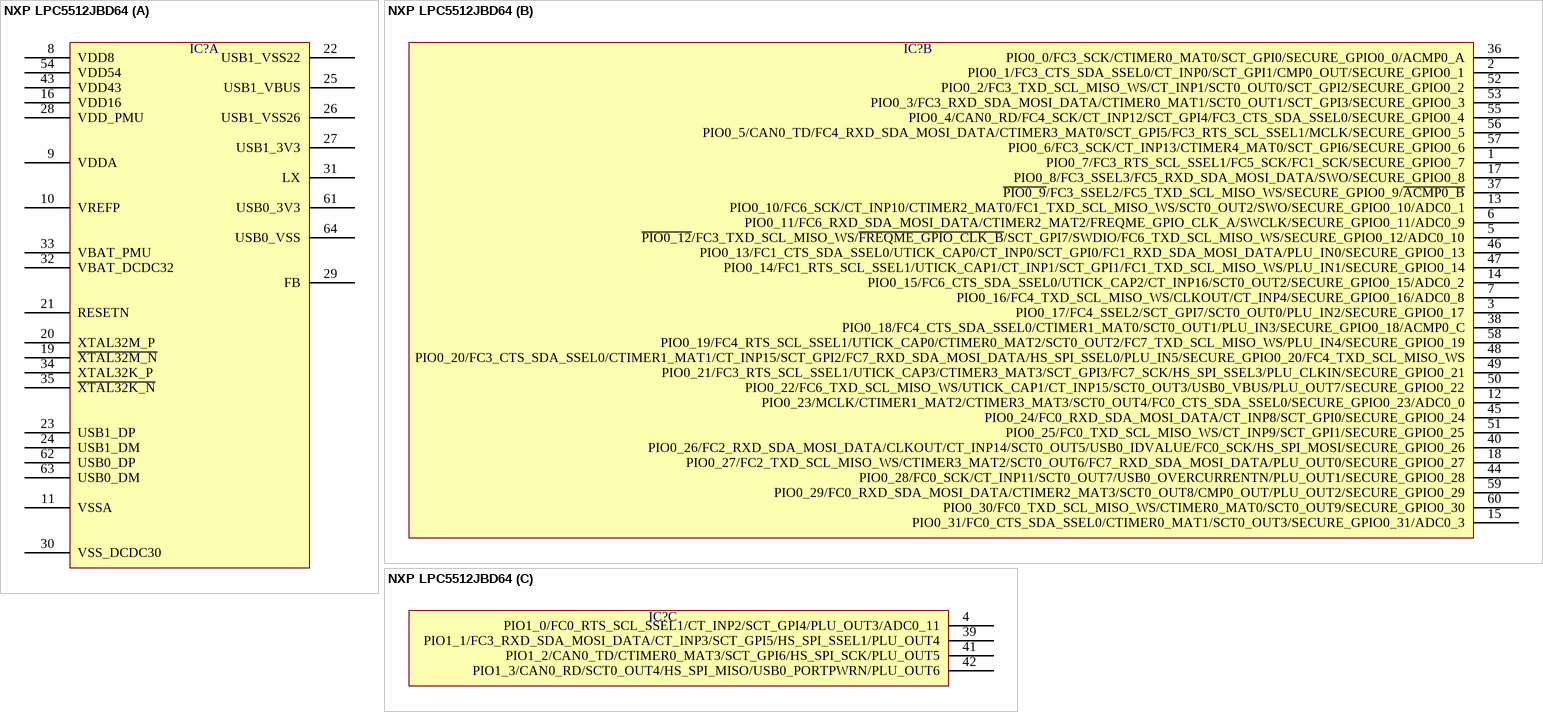
[diagram p357: symbol NXP LPC5512JBD64]